# Altium integrated library Cypress PLD Ultra37000.IntLib: 166 symbols (part 5 of 12)
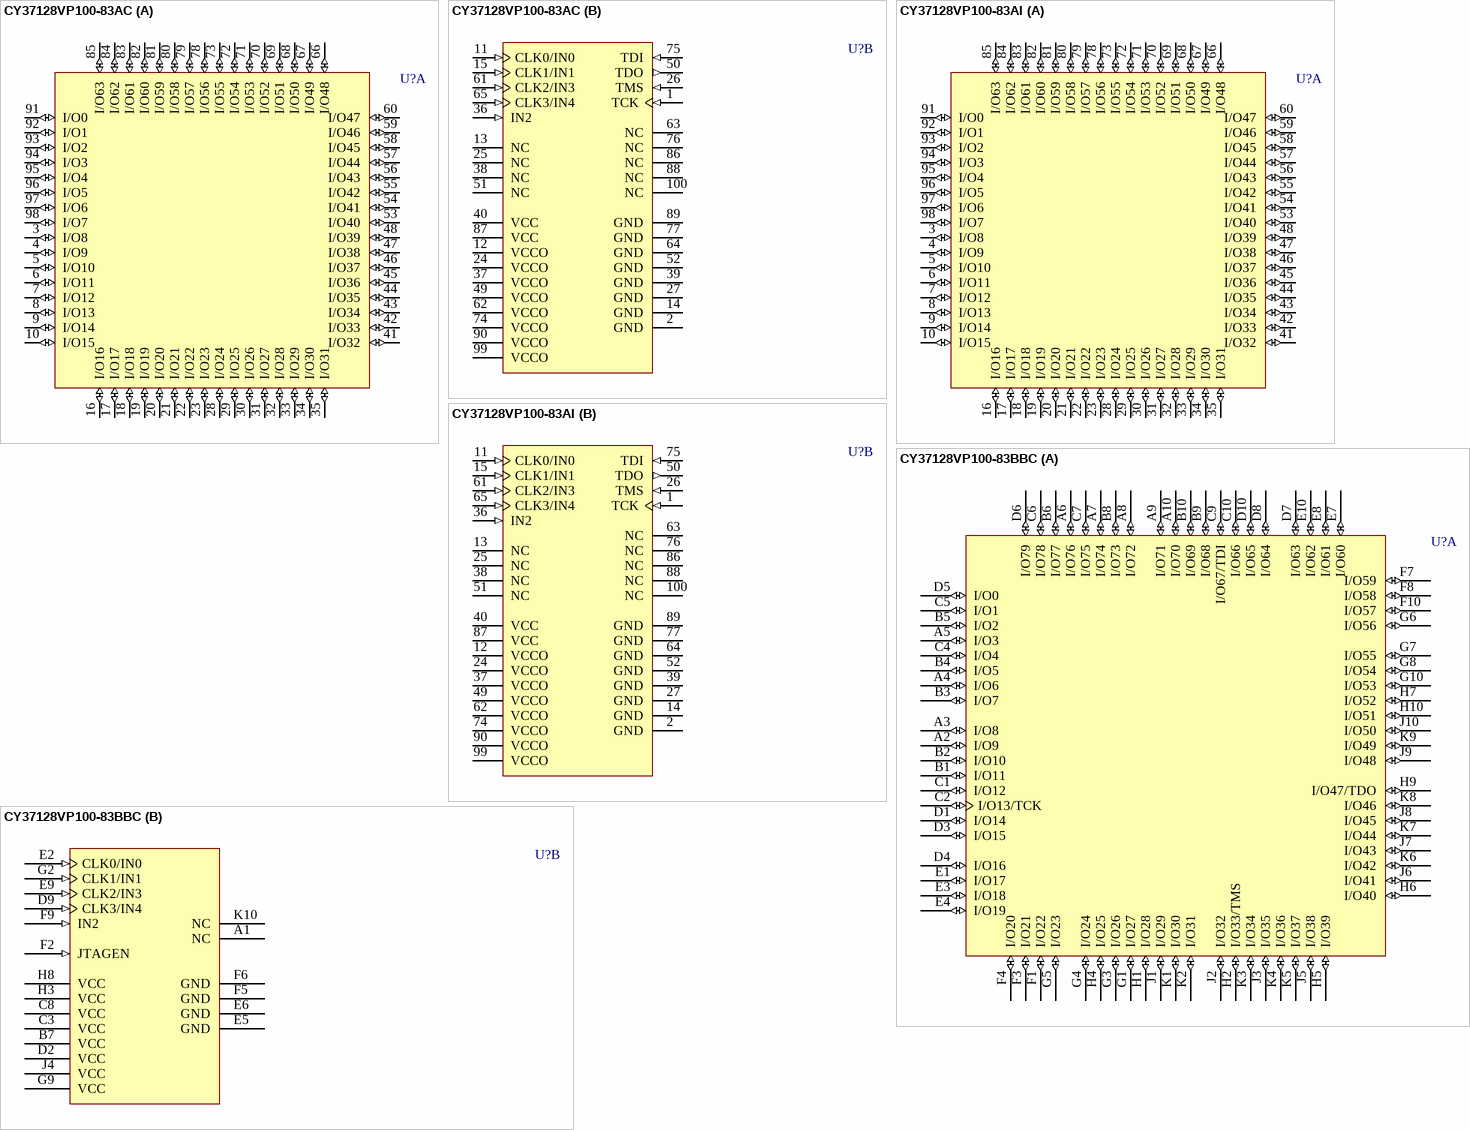
[diagram p94: symbols CY37128VP100-83AC to CY37128VP100-83BBC]

## CY37128VP100-83BBC
designator U?
Ultra37000 3.3V, ISR High-Performance CPLD; Published: 11-Dec-2002; LatestRevisionDate: 13-Apr-2006; LatestRevisionNote: IPC-7351 Footprint Added.; DatasheetVersion: 18-Apr-2001; PackageVersion: Mar-2001; PackageReference: BB100; Publisher: Altium Limited; PackageDescription: 100-Ball Thin Ball Grid Array 1 mm Pitch; ComponentLink1Description: Manufacturer Link; ComponentLink1URL: http://www.cypress.com/; ComponentLink2Description: Datasheet; ComponentLink2URL: http://www.cypress.com/portal/server.pt/gateway/PTARGS_0_2_1524_209_259_43/http%3B/sjapp20.mis.cypress.com%3B7001/publishedcontent/publish/design_resources/datasheets/contents/cy37032p_5.pdf
footprint BB100 (BGA, 100-Leads, Body 11x11mm, Pitch 1mm)
3D model CY37128VP100-BB100 (100-Ball Thin Ball Grid Array 1 mm Pitch)
part A pins: A2 I/O9 (io), A3 I/O8 (io), A4 I/O6 (io), A5 I/O3 (io), A6 I/O76 (io), A7 I/O74 (io), A8 I/O72 (io), A9 I/O71 (io), A10 I/O70 (io), B1 I/O11 (io), B2 I/O10 (io), B3 I/O7 (io), B4 I/O5 (io), B5 I/O2 (io), B6 I/O77 (io), B8 I/O73 (io), B9 I/O68 (io), B10 I/O69 (io), C1 I/O12 (io), C2 I/O13/TCK (io), C4 I/O4 (io), C5 I/O1 (io), C6 I/O78 (io), C7 I/O75 (io), C9 I/O67/TDI (io), C10 I/O66 (io), D1 I/O14 (io), D3 I/O15 (io), D4 I/O16 (io), D5 I/O0 (io), D6 I/O79 (io), D7 I/O63 (io), D8 I/O64 (io), D10 I/O65 (io), E1 I/O17 (io), E3 I/O18 (io), E4 I/O19 (io), E7 I/O60 (io), E8 I/O61 (io), E10 I/O62 (io), F1 I/O22 (io), F3 I/O21 (io), F4 I/O20 (io), F7 I/O59 (io), F8 I/O58 (io), F10 I/O57 (io), G1 I/O27 (io), G3 I/O26 (io), G4 I/O24 (io), G5 I/O23 (io), G6 I/O56 (io), G7 I/O55 (io), G8 I/O54 (io), G10 I/O53 (io), H1 I/O28 (io), H2 I/O33/TMS (io), H4 I/O25 (io), H5 I/O39 (io), H6 I/O40 (io), H7 I/O52 (io), H9 I/O47/TDO (io), H10 I/O51 (io), J1 I/O29 (io), J2 I/O32 (io), J3 I/O35 (io), J5 I/O38 (io), J6 I/O41 (io), J7 I/O43 (io), J8 I/O45 (io), J9 I/O48 (io), J10 I/O50 (io), K1 I/O30 (io), K2 I/O31 (io), K3 I/O34 (io), K4 I/O36 (io), K5 I/O37 (io), K6 I/O42 (io), K7 I/O44 (io), K8 I/O46 (io), K9 I/O49 (io)
part B pins: A1 NC, B7 VCC (power), C3 VCC (power), C8 VCC (power), D2 VCC (power), D9 CLK3/IN4 (in), E2 CLK0/IN0 (in), E5 GND (power), E6 GND (power), E9 CLK2/IN3 (in), F2 JTAGEN (in), F5 GND (power), F6 GND (power), F9 IN2 (in), G2 CLK1/IN1 (in), G9 VCC (power), H3 VCC (power), H8 VCC (power), J4 VCC (power), K10 NC

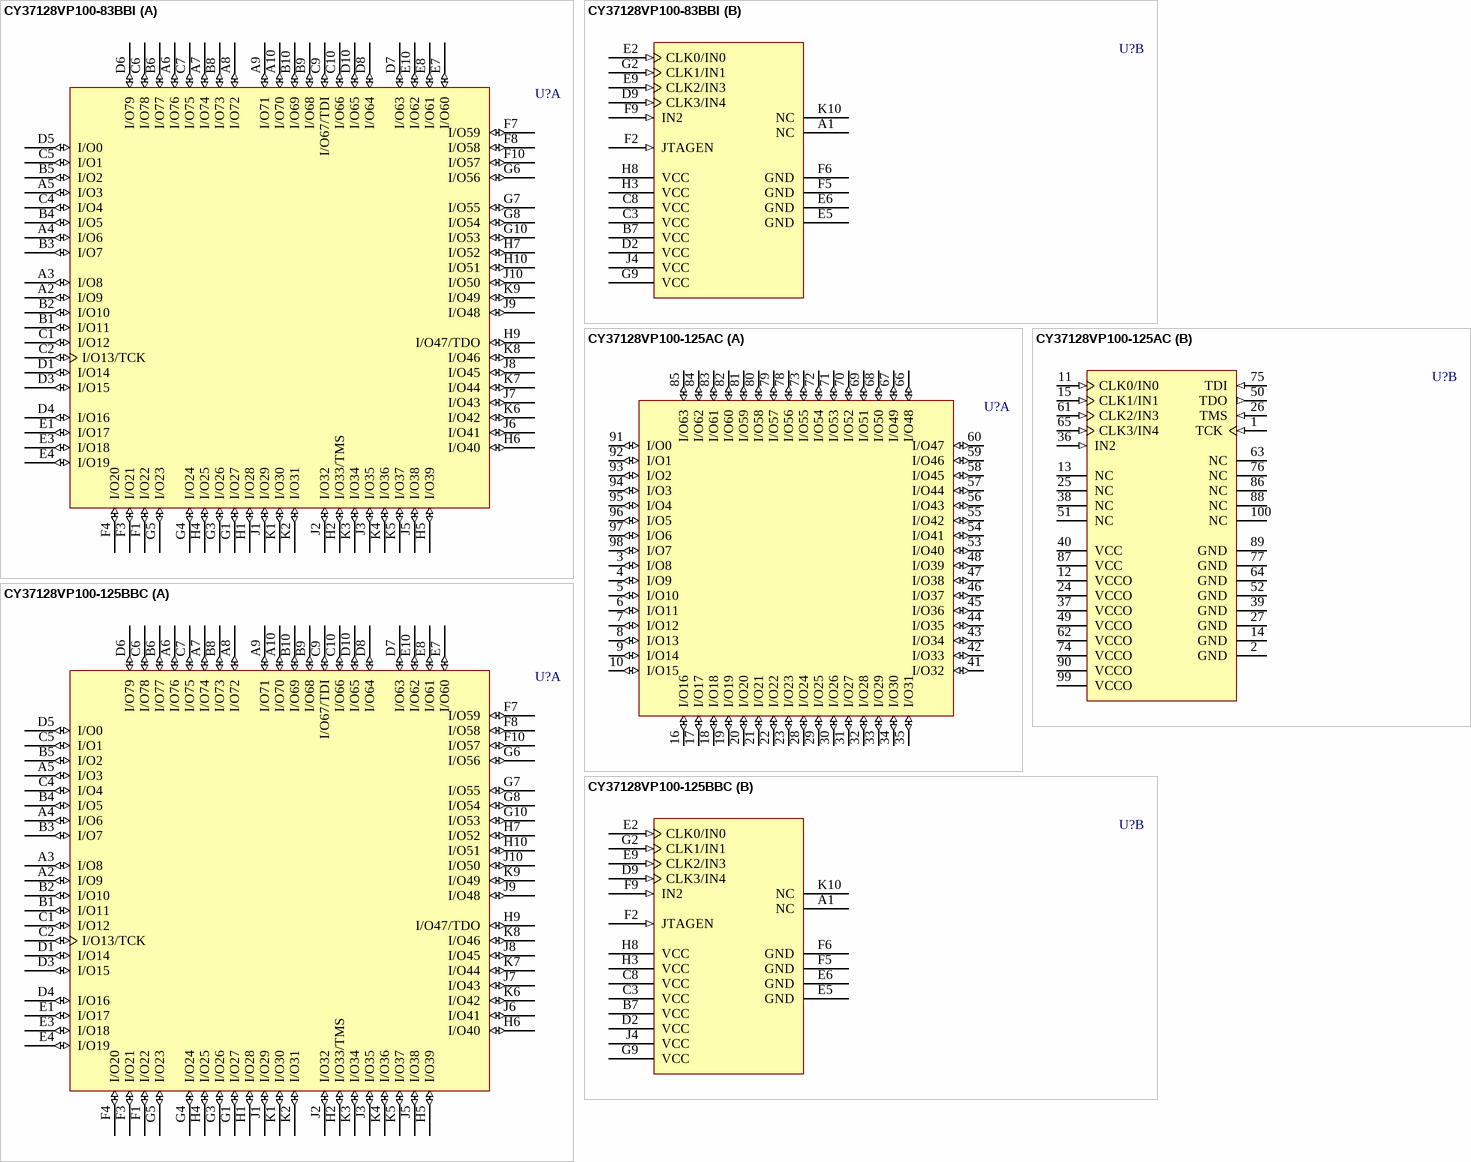
[diagram p20: symbols CY37128VP100-83BBI to CY37128VP100-125BBC]

## CY37128VP100-83BBI
designator U?
Ultra37000 3.3V, ISR High-Performance CPLD; Published: 11-Dec-2002; LatestRevisionDate: 13-Apr-2006; LatestRevisionNote: IPC-7351 Footprint Added.; DatasheetVersion: 18-Apr-2001; PackageVersion: Mar-2001; PackageReference: BB100; Publisher: Altium Limited; PackageDescription: 100-Ball Thin Ball Grid Array 1 mm Pitch; ComponentLink1Description: Manufacturer Link; ComponentLink1URL: http://www.cypress.com/; ComponentLink2Description: Datasheet; ComponentLink2URL: http://www.cypress.com/portal/server.pt/gateway/PTARGS_0_2_1524_209_259_43/http%3B/sjapp20.mis.cypress.com%3B7001/publishedcontent/publish/design_resources/datasheets/contents/cy37032p_5.pdf
footprint BB100 (BGA, 100-Leads, Body 11x11mm, Pitch 1mm)
3D model CY37128VP100-BB100 (100-Ball Thin Ball Grid Array 1 mm Pitch)
part A pins: A2 I/O9 (io), A3 I/O8 (io), A4 I/O6 (io), A5 I/O3 (io), A6 I/O76 (io), A7 I/O74 (io), A8 I/O72 (io), A9 I/O71 (io), A10 I/O70 (io), B1 I/O11 (io), B2 I/O10 (io), B3 I/O7 (io), B4 I/O5 (io), B5 I/O2 (io), B6 I/O77 (io), B8 I/O73 (io), B9 I/O68 (io), B10 I/O69 (io), C1 I/O12 (io), C2 I/O13/TCK (io), C4 I/O4 (io), C5 I/O1 (io), C6 I/O78 (io), C7 I/O75 (io), C9 I/O67/TDI (io), C10 I/O66 (io), D1 I/O14 (io), D3 I/O15 (io), D4 I/O16 (io), D5 I/O0 (io), D6 I/O79 (io), D7 I/O63 (io), D8 I/O64 (io), D10 I/O65 (io), E1 I/O17 (io), E3 I/O18 (io), E4 I/O19 (io), E7 I/O60 (io), E8 I/O61 (io), E10 I/O62 (io), F1 I/O22 (io), F3 I/O21 (io), F4 I/O20 (io), F7 I/O59 (io), F8 I/O58 (io), F10 I/O57 (io), G1 I/O27 (io), G3 I/O26 (io), G4 I/O24 (io), G5 I/O23 (io), G6 I/O56 (io), G7 I/O55 (io), G8 I/O54 (io), G10 I/O53 (io), H1 I/O28 (io), H2 I/O33/TMS (io), H4 I/O25 (io), H5 I/O39 (io), H6 I/O40 (io), H7 I/O52 (io), H9 I/O47/TDO (io), H10 I/O51 (io), J1 I/O29 (io), J2 I/O32 (io), J3 I/O35 (io), J5 I/O38 (io), J6 I/O41 (io), J7 I/O43 (io), J8 I/O45 (io), J9 I/O48 (io), J10 I/O50 (io), K1 I/O30 (io), K2 I/O31 (io), K3 I/O34 (io), K4 I/O36 (io), K5 I/O37 (io), K6 I/O42 (io), K7 I/O44 (io), K8 I/O46 (io), K9 I/O49 (io)
part B pins: A1 NC, B7 VCC (power), C3 VCC (power), C8 VCC (power), D2 VCC (power), D9 CLK3/IN4 (in), E2 CLK0/IN0 (in), E5 GND (power), E6 GND (power), E9 CLK2/IN3 (in), F2 JTAGEN (in), F5 GND (power), F6 GND (power), F9 IN2 (in), G2 CLK1/IN1 (in), G9 VCC (power), H3 VCC (power), H8 VCC (power), J4 VCC (power), K10 NC

## CY37128VP100-125AC
designator U?
Ultra37000 3.3V, ISR High-Performance CPLD; Published: 11-Dec-2002; LatestRevisionDate: 13-Apr-2006; LatestRevisionNote: IPC-7351 Footprint Added.; DatasheetVersion: 18-Apr-2001; PackageVersion: Mar-2001; PackageReference: A100; Publisher: Altium Limited; PackageDescription: 100-Pin Thin Quad Flat Pack 0.5 mm Pitch; ComponentLink1Description: Manufacturer Link; ComponentLink1URL: http://www.cypress.com/; ComponentLink2Description: Datasheet; ComponentLink2URL: http://www.cypress.com/portal/server.pt/gateway/PTARGS_0_2_1524_209_259_43/http%3B/sjapp20.mis.cypress.com%3B7001/publishedcontent/publish/design_resources/datasheets/contents/cy37032p_5.pdf
footprint A100_N (Thin QFP, 100-Leads, Body 14x14mm, Pitch 0.5mm, IPC Medium Density)
footprint A100_L (Thin QFP, 100-Leads, Body 14x14mm, Pitch 0.5mm, IPC High Density)
footprint A100_M (Thin QFP, 100-Leads, Body 14x14mm, Pitch 0.5mm, IPC Low Density)
3D model CY37128VP100-A100 (100-Pin Thin Quad Flat Pack 0.5 mm Pitch)
part A pins: 3 I/O8 (io), 4 I/O9 (io), 5 I/O10 (io), 6 I/O11 (io), 7 I/O12 (io), 8 I/O13 (io), 9 I/O14 (io), 10 I/O15 (io), 16 I/O16 (io), 17 I/O17 (io), 18 I/O18 (io), 19 I/O19 (io), 20 I/O20 (io), 21 I/O21 (io), 22 I/O22 (io), 23 I/O23 (io), 28 I/O24 (io), 29 I/O25 (io), 30 I/O26 (io), 31 I/O27 (io), 32 I/O28 (io), 33 I/O29 (io), 34 I/O30 (io), 35 I/O31 (io), 41 I/O32 (io), 42 I/O33 (io), 43 I/O34 (io), 44 I/O35 (io), 45 I/O36 (io), 46 I/O37 (io), 47 I/O38 (io), 48 I/O39 (io), 53 I/O40 (io), 54 I/O41 (io), 55 I/O42 (io), 56 I/O43 (io), 57 I/O44 (io), 58 I/O45 (io), 59 I/O46 (io), 60 I/O47 (io), 66 I/O48 (io), 67 I/O49 (io), 68 I/O50 (io), 69 I/O51 (io), 70 I/O52 (io), 71 I/O53 (io), 72 I/O54 (io), 73 I/O55 (io), 78 I/O56 (io), 79 I/O57 (io), 80 I/O58 (io), 81 I/O59 (io), 82 I/O60 (io), 83 I/O61 (io), 84 I/O62 (io), 85 I/O63 (io), 91 I/O0 (io), 92 I/O1 (io), 93 I/O2 (io), 94 I/O3 (io), 95 I/O4 (io), 96 I/O5 (io), 97 I/O6 (io), 98 I/O7 (io)
part B pins: 1 TCK (in), 2 GND (power), 11 CLK0/IN0 (in), 12 VCCO (power), 13 NC, 14 GND (power), 15 CLK1/IN1 (in), 24 VCCO (power), 25 NC, 26 TMS (in), 27 GND (power), 36 IN2 (in), 37 VCCO (power), 38 NC, 39 GND (power), 40 VCC (power), 49 VCCO (power), 50 TDO (out), 51 NC, 52 GND (power), 61 CLK2/IN3 (in), 62 VCCO (power), 63 NC, 64 GND (power), 65 CLK3/IN4 (in), 74 VCCO (power), 75 TDI (in), 76 NC, 77 GND (power), 86 NC, 87 VCC (power), 88 NC, 89 GND (power), 90 VCCO (power), 99 VCCO (power), 100 NC

## CY37128VP100-125BBC
designator U?
Ultra37000 3.3V, ISR High-Performance CPLD; Published: 11-Dec-2002; LatestRevisionDate: 13-Apr-2006; LatestRevisionNote: IPC-7351 Footprint Added.; DatasheetVersion: 18-Apr-2001; PackageVersion: Mar-2001; PackageReference: BB100; Publisher: Altium Limited; PackageDescription: 100-Ball Thin Ball Grid Array 1 mm Pitch; ComponentLink1Description: Manufacturer Link; ComponentLink1URL: http://www.cypress.com/; ComponentLink2Description: Datasheet; ComponentLink2URL: http://www.cypress.com/portal/server.pt/gateway/PTARGS_0_2_1524_209_259_43/http%3B/sjapp20.mis.cypress.com%3B7001/publishedcontent/publish/design_resources/datasheets/contents/cy37032p_5.pdf
footprint BB100 (BGA, 100-Leads, Body 11x11mm, Pitch 1mm)
3D model CY37128VP100-BB100 (100-Ball Thin Ball Grid Array 1 mm Pitch)
part A pins: A2 I/O9 (io), A3 I/O8 (io), A4 I/O6 (io), A5 I/O3 (io), A6 I/O76 (io), A7 I/O74 (io), A8 I/O72 (io), A9 I/O71 (io), A10 I/O70 (io), B1 I/O11 (io), B2 I/O10 (io), B3 I/O7 (io), B4 I/O5 (io), B5 I/O2 (io), B6 I/O77 (io), B8 I/O73 (io), B9 I/O68 (io), B10 I/O69 (io), C1 I/O12 (io), C2 I/O13/TCK (io), C4 I/O4 (io), C5 I/O1 (io), C6 I/O78 (io), C7 I/O75 (io), C9 I/O67/TDI (io), C10 I/O66 (io), D1 I/O14 (io), D3 I/O15 (io), D4 I/O16 (io), D5 I/O0 (io), D6 I/O79 (io), D7 I/O63 (io), D8 I/O64 (io), D10 I/O65 (io), E1 I/O17 (io), E3 I/O18 (io), E4 I/O19 (io), E7 I/O60 (io), E8 I/O61 (io), E10 I/O62 (io), F1 I/O22 (io), F3 I/O21 (io), F4 I/O20 (io), F7 I/O59 (io), F8 I/O58 (io), F10 I/O57 (io), G1 I/O27 (io), G3 I/O26 (io), G4 I/O24 (io), G5 I/O23 (io), G6 I/O56 (io), G7 I/O55 (io), G8 I/O54 (io), G10 I/O53 (io), H1 I/O28 (io), H2 I/O33/TMS (io), H4 I/O25 (io), H5 I/O39 (io), H6 I/O40 (io), H7 I/O52 (io), H9 I/O47/TDO (io), H10 I/O51 (io), J1 I/O29 (io), J2 I/O32 (io), J3 I/O35 (io), J5 I/O38 (io), J6 I/O41 (io), J7 I/O43 (io), J8 I/O45 (io), J9 I/O48 (io), J10 I/O50 (io), K1 I/O30 (io), K2 I/O31 (io), K3 I/O34 (io), K4 I/O36 (io), K5 I/O37 (io), K6 I/O42 (io), K7 I/O44 (io), K8 I/O46 (io), K9 I/O49 (io)
part B pins: A1 NC, B7 VCC (power), C3 VCC (power), C8 VCC (power), D2 VCC (power), D9 CLK3/IN4 (in), E2 CLK0/IN0 (in), E5 GND (power), E6 GND (power), E9 CLK2/IN3 (in), F2 JTAGEN (in), F5 GND (power), F6 GND (power), F9 IN2 (in), G2 CLK1/IN1 (in), G9 VCC (power), H3 VCC (power), H8 VCC (power), J4 VCC (power), K10 NC

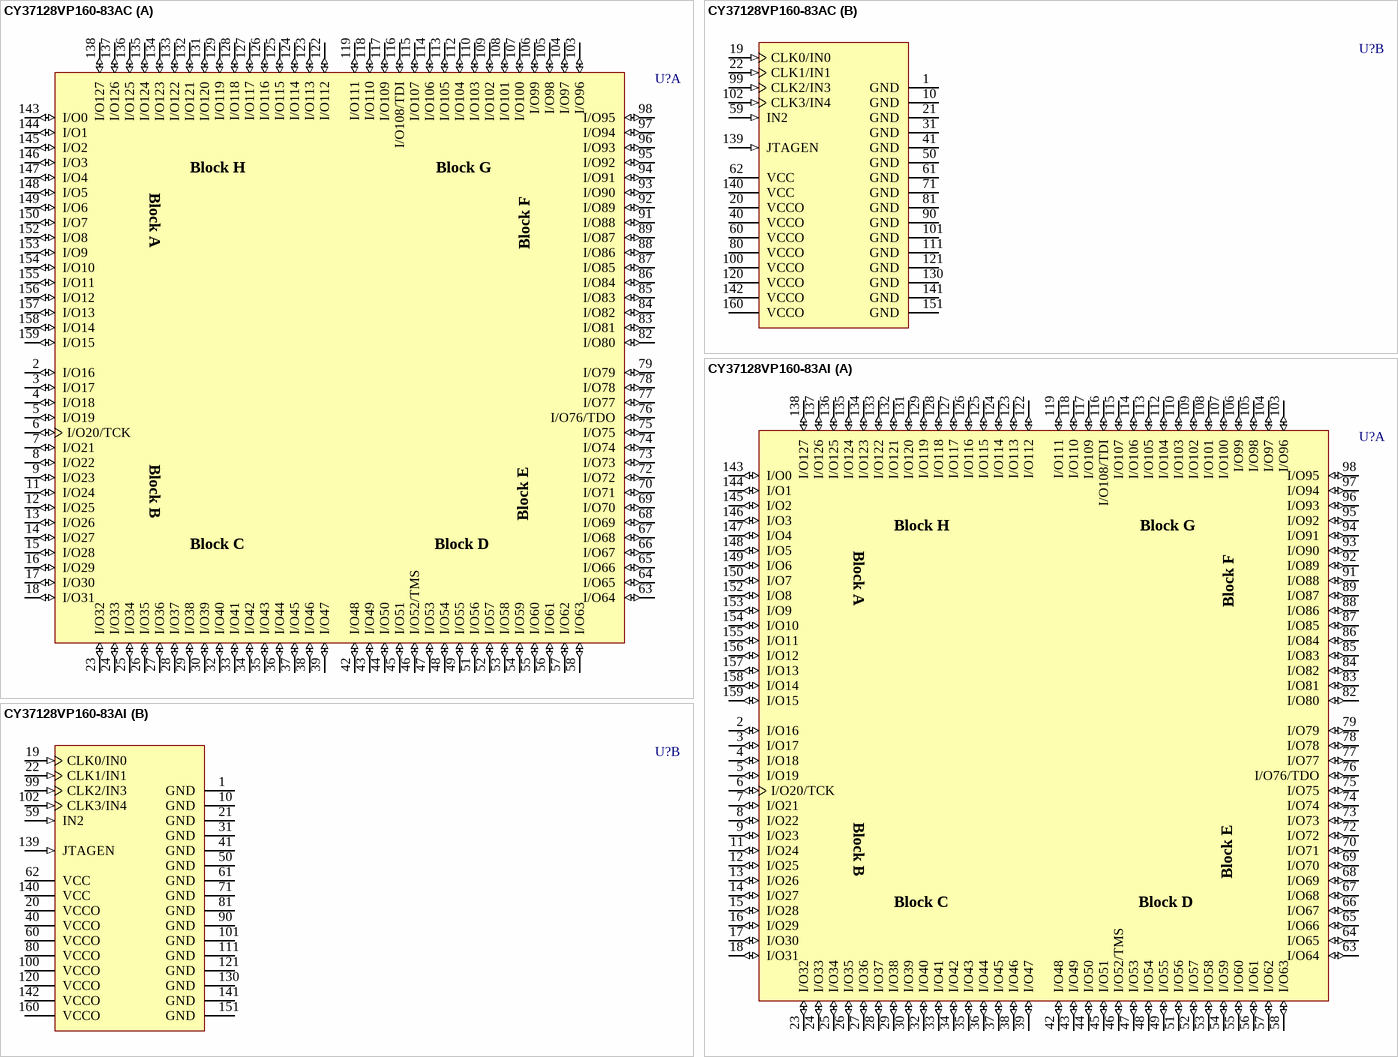
[diagram p21: symbols CY37128VP160-83AC to CY37128VP160-83AI]

## CY37128VP160-83AC
designator U?
Ultra37000 3.3V, ISR High-Performance CPLD; Published: 11-Dec-2002; LatestRevisionDate: 13-Apr-2006; LatestRevisionNote: IPC-7351 Footprint Added.; DatasheetVersion: 18-Apr-2001; PackageVersion: Mar-2001; PackageReference: A160; Publisher: Altium Limited; PackageDescription: 160-Pin Thin Quad Flat Pack 0.5 mm Pitch; ComponentLink1Description: Manufacturer Link; ComponentLink1URL: http://www.cypress.com/; ComponentLink2Description: Datasheet; ComponentLink2URL: http://www.cypress.com/portal/server.pt/gateway/PTARGS_0_2_1524_209_259_43/http%3B/sjapp20.mis.cypress.com%3B7001/publishedcontent/publish/design_resources/datasheets/contents/cy37032p_5.pdf
footprint A160_N (Thin QFP, 160-Leads, Body 24x24mm, Pitch 0.5mm, IPC Medium Density)
footprint A160_L (Thin QFP, 160-Leads, Body 24x24mm, Pitch 0.5mm, IPC High Density)
footprint A160_M (Thin QFP, 160-Leads, Body 24x24mm, Pitch 0.5mm, IPC Low Density)
3D model CY37128VP160-A160 (160-Pin Thin Quad Flat Pack 0.5 mm Pitch)
part A pins: 2 I/O16 (io), 3 I/O17 (io), 4 I/O18 (io), 5 I/O19 (io), 6 I/O20/TCK (io), 7 I/O21 (io), 8 I/O22 (io), 9 I/O23 (io), 11 I/O24 (io), 12 I/O25 (io), 13 I/O26 (io), 14 I/O27 (io), 15 I/O28 (io), 16 I/O29 (io), 17 I/O30 (io), 18 I/O31 (io), 23 I/O32 (io), 24 I/O33 (io), 25 I/O34 (io), 26 I/O35 (io), 27 I/O36 (io), 28 I/O37 (io), 29 I/O38 (io), 30 I/O39 (io), 32 I/O40 (io), 33 I/O41 (io), 34 I/O42 (io), 35 I/O43 (io), 36 I/O44 (io), 37 I/O45 (io), 38 I/O46 (io), 39 I/O47 (io), 42 I/O48 (io), 43 I/O49 (io), 44 I/O50 (io), 45 I/O51 (io), 46 I/O52/TMS (io), 47 I/O53 (io), 48 I/O54 (io), 49 I/O55 (io), 51 I/O56 (io), 52 I/O57 (io), 53 I/O58 (io), 54 I/O59 (io), 55 I/O60 (io), 56 I/O61 (io), 57 I/O62 (io), 58 I/O63 (io), 63 I/O64 (io), 64 I/O65 (io), 65 I/O66 (io), 66 I/O67 (io), 67 I/O68 (io), 68 I/O69 (io), 69 I/O70 (io), 70 I/O71 (io), 72 I/O72 (io), 73 I/O73 (io), 74 I/O74 (io), 75 I/O75 (io), 76 I/O76/TDO (io), 77 I/O77 (io), 78 I/O78 (io), 79 I/O79 (io), 82 I/O80 (io), 83 I/O81 (io), 84 I/O82 (io), 85 I/O83 (io), 86 I/O84 (io), 87 I/O85 (io), 88 I/O86 (io), 89 I/O87 (io), 91 I/O88 (io), 92 I/O89 (io), 93 I/O90 (io), 94 I/O91 (io), 95 I/O92 (io), 96 I/O93 (io), 97 I/O94 (io), 98 I/O95 (io), 103 I/O96 (io), 104 I/O97 (io), 105 I/O98 (io), 106 I/O99 (io), 107 I/O100 (io), 108 I/O101 (io), 109 I/O102 (io), 110 I/O103 (io), 112 I/O104 (io), 113 I/O105 (io), 114 I/O106 (io), 115 I/O107 (io), 116 I/O108/TDI (io), 117 I/O109 (io), 118 I/O110 (io), 119 I/O111 (io), 122 I/O112 (io), 123 I/O113 (io), 124 I/O114 (io), 125 I/O115 (io), 126 I/O116 (io), 127 I/O117 (io), 128 I/O118 (io), 129 I/O119 (io), 131 I/O120 (io), 132 I/O121 (io), 133 I/O122 (io), 134 I/O123 (io), 135 I/O124 (io), 136 I/O125 (io), 137 I/O126 (io), 138 I/O127 (io), 143 I/O0 (io), 144 I/O1 (io), 145 I/O2 (io), 146 I/O3 (io), 147 I/O4 (io), 148 I/O5 (io), 149 I/O6 (io), 150 I/O7 (io), 152 I/O8 (io), 153 I/O9 (io), 154 I/O10 (io), 155 I/O11 (io), 156 I/O12 (io), 157 I/O13 (io), 158 I/O14 (io), 159 I/O15 (io)
part B pins: 1 GND (power), 10 GND (power), 19 CLK0/IN0 (in), 20 VCCO (power), 21 GND (power), 22 CLK1/IN1 (in), 31 GND (power), 40 VCCO (power), 41 GND (power), 50 GND (power), 59 IN2 (in), 60 VCCO (power), 61 GND (power), 62 VCC (power), 71 GND (power), 80 VCCO (power), 81 GND (power), 90 GND (power), 99 CLK2/IN3 (in), 100 VCCO (power), 101 GND (power), 102 CLK3/IN4 (in), 111 GND (power), 120 VCCO (power), 121 GND (power), 130 GND (power), 139 JTAGEN (in), 140 VCC (power), 141 GND (power), 142 VCCO (power), 151 GND (power), 160 VCCO (power)
part A text: Block H; Block G; Block A; Block F; Block B; Block E; Block C; Block D

## CY37128VP160-83AI
designator U?
Ultra37000 3.3V, ISR High-Performance CPLD; Published: 11-Dec-2002; LatestRevisionDate: 13-Apr-2006; LatestRevisionNote: IPC-7351 Footprint Added.; DatasheetVersion: 18-Apr-2001; PackageVersion: Mar-2001; PackageReference: A160; Publisher: Altium Limited; PackageDescription: 160-Pin Thin Quad Flat Pack 0.5 mm Pitch; ComponentLink1Description: Manufacturer Link; ComponentLink1URL: http://www.cypress.com/; ComponentLink2Description: Datasheet; ComponentLink2URL: http://www.cypress.com/portal/server.pt/gateway/PTARGS_0_2_1524_209_259_43/http%3B/sjapp20.mis.cypress.com%3B7001/publishedcontent/publish/design_resources/datasheets/contents/cy37032p_5.pdf
footprint A160_N (Thin QFP, 160-Leads, Body 24x24mm, Pitch 0.5mm, IPC Medium Density)
footprint A160_L (Thin QFP, 160-Leads, Body 24x24mm, Pitch 0.5mm, IPC High Density)
footprint A160_M (Thin QFP, 160-Leads, Body 24x24mm, Pitch 0.5mm, IPC Low Density)
3D model CY37128VP160-A160 (160-Pin Thin Quad Flat Pack 0.5 mm Pitch)
part A pins: 2 I/O16 (io), 3 I/O17 (io), 4 I/O18 (io), 5 I/O19 (io), 6 I/O20/TCK (io), 7 I/O21 (io), 8 I/O22 (io), 9 I/O23 (io), 11 I/O24 (io), 12 I/O25 (io), 13 I/O26 (io), 14 I/O27 (io), 15 I/O28 (io), 16 I/O29 (io), 17 I/O30 (io), 18 I/O31 (io), 23 I/O32 (io), 24 I/O33 (io), 25 I/O34 (io), 26 I/O35 (io), 27 I/O36 (io), 28 I/O37 (io), 29 I/O38 (io), 30 I/O39 (io), 32 I/O40 (io), 33 I/O41 (io), 34 I/O42 (io), 35 I/O43 (io), 36 I/O44 (io), 37 I/O45 (io), 38 I/O46 (io), 39 I/O47 (io), 42 I/O48 (io), 43 I/O49 (io), 44 I/O50 (io), 45 I/O51 (io), 46 I/O52/TMS (io), 47 I/O53 (io), 48 I/O54 (io), 49 I/O55 (io), 51 I/O56 (io), 52 I/O57 (io), 53 I/O58 (io), 54 I/O59 (io), 55 I/O60 (io), 56 I/O61 (io), 57 I/O62 (io), 58 I/O63 (io), 63 I/O64 (io), 64 I/O65 (io), 65 I/O66 (io), 66 I/O67 (io), 67 I/O68 (io), 68 I/O69 (io), 69 I/O70 (io), 70 I/O71 (io), 72 I/O72 (io), 73 I/O73 (io), 74 I/O74 (io), 75 I/O75 (io), 76 I/O76/TDO (io), 77 I/O77 (io), 78 I/O78 (io), 79 I/O79 (io), 82 I/O80 (io), 83 I/O81 (io), 84 I/O82 (io), 85 I/O83 (io), 86 I/O84 (io), 87 I/O85 (io), 88 I/O86 (io), 89 I/O87 (io), 91 I/O88 (io), 92 I/O89 (io), 93 I/O90 (io), 94 I/O91 (io), 95 I/O92 (io), 96 I/O93 (io), 97 I/O94 (io), 98 I/O95 (io), 103 I/O96 (io), 104 I/O97 (io), 105 I/O98 (io), 106 I/O99 (io), 107 I/O100 (io), 108 I/O101 (io), 109 I/O102 (io), 110 I/O103 (io), 112 I/O104 (io), 113 I/O105 (io), 114 I/O106 (io), 115 I/O107 (io), 116 I/O108/TDI (io), 117 I/O109 (io), 118 I/O110 (io), 119 I/O111 (io), 122 I/O112 (io), 123 I/O113 (io), 124 I/O114 (io), 125 I/O115 (io), 126 I/O116 (io), 127 I/O117 (io), 128 I/O118 (io), 129 I/O119 (io), 131 I/O120 (io), 132 I/O121 (io), 133 I/O122 (io), 134 I/O123 (io), 135 I/O124 (io), 136 I/O125 (io), 137 I/O126 (io), 138 I/O127 (io), 143 I/O0 (io), 144 I/O1 (io), 145 I/O2 (io), 146 I/O3 (io), 147 I/O4 (io), 148 I/O5 (io), 149 I/O6 (io), 150 I/O7 (io), 152 I/O8 (io), 153 I/O9 (io), 154 I/O10 (io), 155 I/O11 (io), 156 I/O12 (io), 157 I/O13 (io), 158 I/O14 (io), 159 I/O15 (io)
part B pins: 1 GND (power), 10 GND (power), 19 CLK0/IN0 (in), 20 VCCO (power), 21 GND (power), 22 CLK1/IN1 (in), 31 GND (power), 40 VCCO (power), 41 GND (power), 50 GND (power), 59 IN2 (in), 60 VCCO (power), 61 GND (power), 62 VCC (power), 71 GND (power), 80 VCCO (power), 81 GND (power), 90 GND (power), 99 CLK2/IN3 (in), 100 VCCO (power), 101 GND (power), 102 CLK3/IN4 (in), 111 GND (power), 120 VCCO (power), 121 GND (power), 130 GND (power), 139 JTAGEN (in), 140 VCC (power), 141 GND (power), 142 VCCO (power), 151 GND (power), 160 VCCO (power)
part A text: Block H; Block G; Block A; Block F; Block B; Block E; Block C; Block D

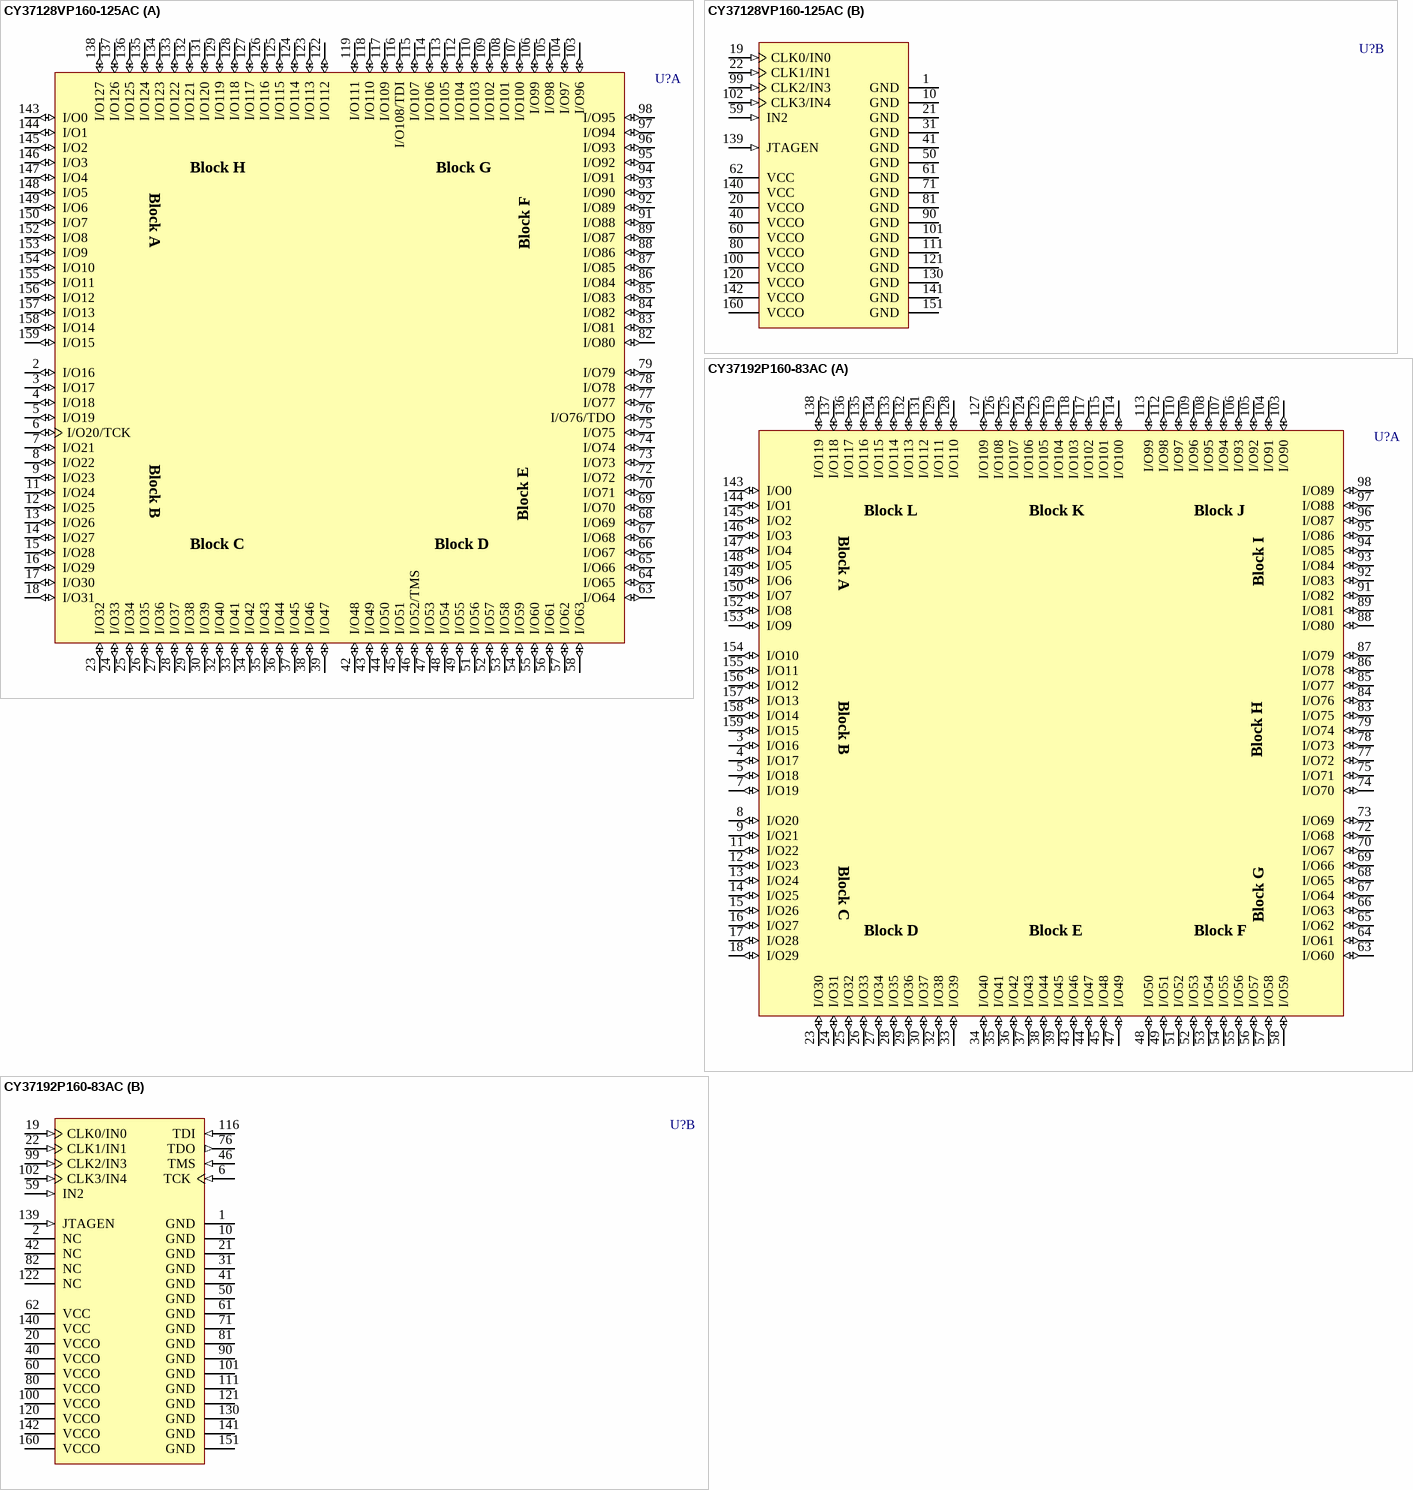
[diagram p22: symbols CY37128VP160-125AC to CY37192P160-83AC]

## CY37128VP160-125AC
designator U?
Ultra37000 3.3V, ISR High-Performance CPLD; Published: 11-Dec-2002; LatestRevisionDate: 13-Apr-2006; LatestRevisionNote: IPC-7351 Footprint Added.; DatasheetVersion: 18-Apr-2001; PackageVersion: Mar-2001; PackageReference: A160; Publisher: Altium Limited; PackageDescription: 160-Pin Thin Quad Flat Pack 0.5 mm Pitch; ComponentLink1Description: Manufacturer Link; ComponentLink1URL: http://www.cypress.com/; ComponentLink2Description: Datasheet; ComponentLink2URL: http://www.cypress.com/portal/server.pt/gateway/PTARGS_0_2_1524_209_259_43/http%3B/sjapp20.mis.cypress.com%3B7001/publishedcontent/publish/design_resources/datasheets/contents/cy37032p_5.pdf
footprint A160_N (Thin QFP, 160-Leads, Body 24x24mm, Pitch 0.5mm, IPC Medium Density)
footprint A160_L (Thin QFP, 160-Leads, Body 24x24mm, Pitch 0.5mm, IPC High Density)
footprint A160_M (Thin QFP, 160-Leads, Body 24x24mm, Pitch 0.5mm, IPC Low Density)
3D model CY37128VP160-A160 (160-Pin Thin Quad Flat Pack 0.5 mm Pitch)
part A pins: 2 I/O16 (io), 3 I/O17 (io), 4 I/O18 (io), 5 I/O19 (io), 6 I/O20/TCK (io), 7 I/O21 (io), 8 I/O22 (io), 9 I/O23 (io), 11 I/O24 (io), 12 I/O25 (io), 13 I/O26 (io), 14 I/O27 (io), 15 I/O28 (io), 16 I/O29 (io), 17 I/O30 (io), 18 I/O31 (io), 23 I/O32 (io), 24 I/O33 (io), 25 I/O34 (io), 26 I/O35 (io), 27 I/O36 (io), 28 I/O37 (io), 29 I/O38 (io), 30 I/O39 (io), 32 I/O40 (io), 33 I/O41 (io), 34 I/O42 (io), 35 I/O43 (io), 36 I/O44 (io), 37 I/O45 (io), 38 I/O46 (io), 39 I/O47 (io), 42 I/O48 (io), 43 I/O49 (io), 44 I/O50 (io), 45 I/O51 (io), 46 I/O52/TMS (io), 47 I/O53 (io), 48 I/O54 (io), 49 I/O55 (io), 51 I/O56 (io), 52 I/O57 (io), 53 I/O58 (io), 54 I/O59 (io), 55 I/O60 (io), 56 I/O61 (io), 57 I/O62 (io), 58 I/O63 (io), 63 I/O64 (io), 64 I/O65 (io), 65 I/O66 (io), 66 I/O67 (io), 67 I/O68 (io), 68 I/O69 (io), 69 I/O70 (io), 70 I/O71 (io), 72 I/O72 (io), 73 I/O73 (io), 74 I/O74 (io), 75 I/O75 (io), 76 I/O76/TDO (io), 77 I/O77 (io), 78 I/O78 (io), 79 I/O79 (io), 82 I/O80 (io), 83 I/O81 (io), 84 I/O82 (io), 85 I/O83 (io), 86 I/O84 (io), 87 I/O85 (io), 88 I/O86 (io), 89 I/O87 (io), 91 I/O88 (io), 92 I/O89 (io), 93 I/O90 (io), 94 I/O91 (io), 95 I/O92 (io), 96 I/O93 (io), 97 I/O94 (io), 98 I/O95 (io), 103 I/O96 (io), 104 I/O97 (io), 105 I/O98 (io), 106 I/O99 (io), 107 I/O100 (io), 108 I/O101 (io), 109 I/O102 (io), 110 I/O103 (io), 112 I/O104 (io), 113 I/O105 (io), 114 I/O106 (io), 115 I/O107 (io), 116 I/O108/TDI (io), 117 I/O109 (io), 118 I/O110 (io), 119 I/O111 (io), 122 I/O112 (io), 123 I/O113 (io), 124 I/O114 (io), 125 I/O115 (io), 126 I/O116 (io), 127 I/O117 (io), 128 I/O118 (io), 129 I/O119 (io), 131 I/O120 (io), 132 I/O121 (io), 133 I/O122 (io), 134 I/O123 (io), 135 I/O124 (io), 136 I/O125 (io), 137 I/O126 (io), 138 I/O127 (io), 143 I/O0 (io), 144 I/O1 (io), 145 I/O2 (io), 146 I/O3 (io), 147 I/O4 (io), 148 I/O5 (io), 149 I/O6 (io), 150 I/O7 (io), 152 I/O8 (io), 153 I/O9 (io), 154 I/O10 (io), 155 I/O11 (io), 156 I/O12 (io), 157 I/O13 (io), 158 I/O14 (io), 159 I/O15 (io)
part B pins: 1 GND (power), 10 GND (power), 19 CLK0/IN0 (in), 20 VCCO (power), 21 GND (power), 22 CLK1/IN1 (in), 31 GND (power), 40 VCCO (power), 41 GND (power), 50 GND (power), 59 IN2 (in), 60 VCCO (power), 61 GND (power), 62 VCC (power), 71 GND (power), 80 VCCO (power), 81 GND (power), 90 GND (power), 99 CLK2/IN3 (in), 100 VCCO (power), 101 GND (power), 102 CLK3/IN4 (in), 111 GND (power), 120 VCCO (power), 121 GND (power), 130 GND (power), 139 JTAGEN (in), 140 VCC (power), 141 GND (power), 142 VCCO (power), 151 GND (power), 160 VCCO (power)
part A text: Block H; Block G; Block A; Block F; Block B; Block E; Block C; Block D

## CY37192P160-83AC
designator U?
Ultra37000 5V, ISR High-Performance CPLD; Published: 11-Dec-2002; LatestRevisionDate: 13-Apr-2006; LatestRevisionNote: IPC-7351 Footprint Added.; DatasheetVersion: 18-Apr-2001; PackageVersion: Mar-2001; PackageReference: A160; Publisher: Altium Limited; PackageDescription: 160-Pin Thin Quad Flat Pack 0.5 mm Pitch; ComponentLink1Description: Manufacturer Link; ComponentLink1URL: http://www.cypress.com/; ComponentLink2Description: Datasheet; ComponentLink2URL: http://www.cypress.com/portal/server.pt/gateway/PTARGS_0_2_1524_209_259_43/http%3B/sjapp20.mis.cypress.com%3B7001/publishedcontent/publish/design_resources/datasheets/contents/cy37032p_5.pdf
footprint A160_N (Thin QFP, 160-Leads, Body 24x24mm, Pitch 0.5mm, IPC Medium Density)
footprint A160_L (Thin QFP, 160-Leads, Body 24x24mm, Pitch 0.5mm, IPC High Density)
footprint A160_M (Thin QFP, 160-Leads, Body 24x24mm, Pitch 0.5mm, IPC Low Density)
3D model CY37192P160-A160 (160-Pin Thin Quad Flat Pack 0.5 mm Pitch)
part A pins: 3 I/O16 (io), 4 I/O17 (io), 5 I/O18 (io), 7 I/O19 (io), 8 I/O20 (io), 9 I/O21 (io), 11 I/O22 (io), 12 I/O23 (io), 13 I/O24 (io), 14 I/O25 (io), 15 I/O26 (io), 16 I/O27 (io), 17 I/O28 (io), 18 I/O29 (io), 23 I/O30 (io), 24 I/O31 (io), 25 I/O32 (io), 26 I/O33 (io), 27 I/O34 (io), 28 I/O35 (io), 29 I/O36 (io), 30 I/O37 (io), 32 I/O38 (io), 33 I/O39 (io), 34 I/O40 (io), 35 I/O41 (io), 36 I/O42 (io), 37 I/O43 (io), 38 I/O44 (io), 39 I/O45 (io), 43 I/O46 (io), 44 I/O47 (io), 45 I/O48 (io), 47 I/O49 (io), 48 I/O50 (io), 49 I/O51 (io), 51 I/O52 (io), 52 I/O53 (io), 53 I/O54 (io), 54 I/O55 (io), 55 I/O56 (io), 56 I/O57 (io), 57 I/O58 (io), 58 I/O59 (io), 63 I/O60 (io), 64 I/O61 (io), 65 I/O62 (io), 66 I/O63 (io), 67 I/O64 (io), 68 I/O65 (io), 69 I/O66 (io), 70 I/O67 (io), 72 I/O68 (io), 73 I/O69 (io), 74 I/O70 (io), 75 I/O71 (io), 77 I/O72 (io), 78 I/O73 (io), 79 I/O74 (io), 83 I/O75 (io), 84 I/O76 (io), 85 I/O77 (io), 86 I/O78 (io), 87 I/O79 (io), 88 I/O80 (io), 89 I/O81 (io), 91 I/O82 (io), 92 I/O83 (io), 93 I/O84 (io), 94 I/O85 (io), 95 I/O86 (io), 96 I/O87 (io), 97 I/O88 (io), 98 I/O89 (io), 103 I/O90 (io), 104 I/O91 (io), 105 I/O92 (io), 106 I/O93 (io), 107 I/O94 (io), 108 I/O95 (io), 109 I/O96 (io), 110 I/O97 (io), 112 I/O98 (io), 113 I/O99 (io), 114 I/O100 (io), 115 I/O101 (io), 117 I/O102 (io), 118 I/O103 (io), 119 I/O104 (io), 123 I/O105 (io), 124 I/O106 (io), 125 I/O107 (io), 126 I/O108 (io), 127 I/O109 (io), 128 I/O110 (io), 129 I/O111 (io), 131 I/O112 (io), 132 I/O113 (io), 133 I/O114 (io), 134 I/O115 (io), 135 I/O116 (io), 136 I/O117 (io), 137 I/O118 (io), 138 I/O119 (io), 143 I/O0 (io), 144 I/O1 (io), 145 I/O2 (io), 146 I/O3 (io), 147 I/O4 (io), 148 I/O5 (io), 149 I/O6 (io), 150 I/O7 (io), 152 I/O8 (io), 153 I/O9 (io), 154 I/O10 (io), 155 I/O11 (io), 156 I/O12 (io), 157 I/O13 (io), 158 I/O14 (io), 159 I/O15 (io)
part B pins: 1 GND (power), 2 NC, 6 TCK (in), 10 GND (power), 19 CLK0/IN0 (in), 20 VCCO (power), 21 GND (power), 22 CLK1/IN1 (in), 31 GND (power), 40 VCCO (power), 41 GND (power), 42 NC, 46 TMS (in), 50 GND (power), 59 IN2 (in), 60 VCCO (power), 61 GND (power), 62 VCC (power), 71 GND (power), 76 TDO (out), 80 VCCO (power), 81 GND (power), 82 NC, 90 GND (power), 99 CLK2/IN3 (in), 100 VCCO (power), 101 GND (power), 102 CLK3/IN4 (in), 111 GND (power), 116 TDI (in), 120 VCCO (power), 121 GND (power), 122 NC, 130 GND (power), 139 JTAGEN (in), 140 VCC (power), 141 GND (power), 142 VCCO (power), 151 GND (power), 160 VCCO (power)
part A text: Block L; Block K; Block J; Block A; Block I; Block B; Block H; Block C; Block G; Block D; Block E; Block F

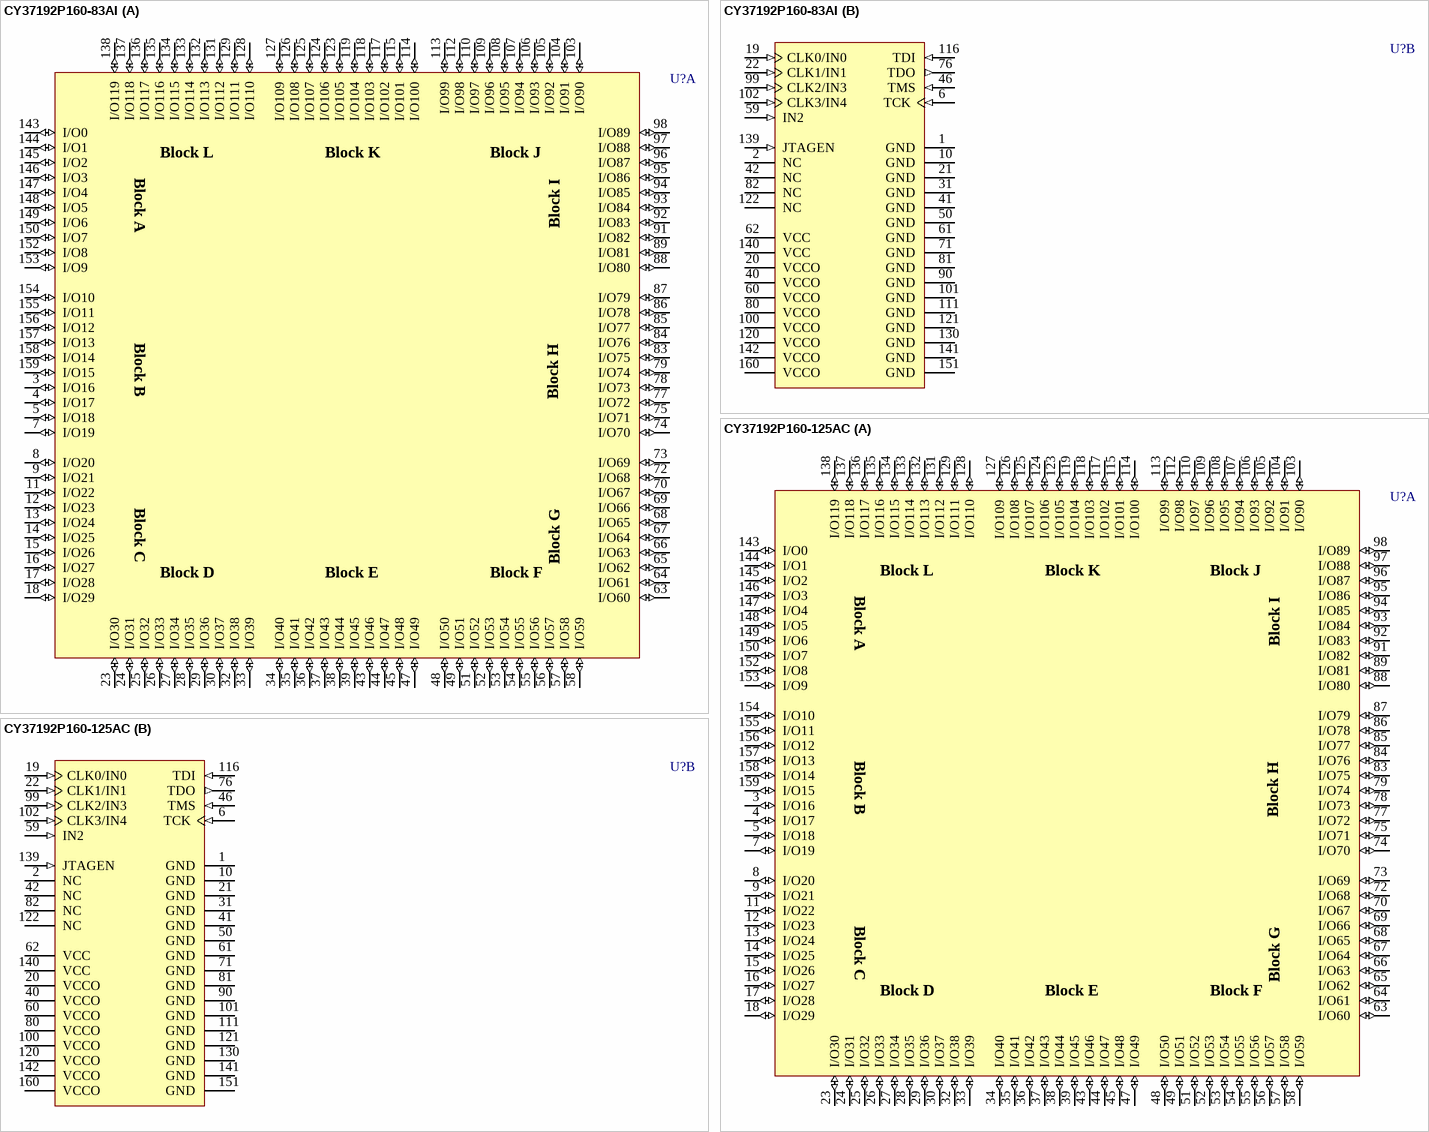
[diagram p23: symbols CY37192P160-83AI to CY37192P160-125AC]

## CY37192P160-83AI
designator U?
Ultra37000 5V, ISR High-Performance CPLD; Published: 11-Dec-2002; LatestRevisionDate: 13-Apr-2006; LatestRevisionNote: IPC-7351 Footprint Added.; DatasheetVersion: 18-Apr-2001; PackageVersion: Mar-2001; PackageReference: A160; Publisher: Altium Limited; PackageDescription: 160-Pin Thin Quad Flat Pack 0.5 mm Pitch; ComponentLink1Description: Manufacturer Link; ComponentLink1URL: http://www.cypress.com/; ComponentLink2Description: Datasheet; ComponentLink2URL: http://www.cypress.com/portal/server.pt/gateway/PTARGS_0_2_1524_209_259_43/http%3B/sjapp20.mis.cypress.com%3B7001/publishedcontent/publish/design_resources/datasheets/contents/cy37032p_5.pdf
footprint A160_N (Thin QFP, 160-Leads, Body 24x24mm, Pitch 0.5mm, IPC Medium Density)
footprint A160_L (Thin QFP, 160-Leads, Body 24x24mm, Pitch 0.5mm, IPC High Density)
footprint A160_M (Thin QFP, 160-Leads, Body 24x24mm, Pitch 0.5mm, IPC Low Density)
3D model CY37192P160-A160 (160-Pin Thin Quad Flat Pack 0.5 mm Pitch)
part A pins: 3 I/O16 (io), 4 I/O17 (io), 5 I/O18 (io), 7 I/O19 (io), 8 I/O20 (io), 9 I/O21 (io), 11 I/O22 (io), 12 I/O23 (io), 13 I/O24 (io), 14 I/O25 (io), 15 I/O26 (io), 16 I/O27 (io), 17 I/O28 (io), 18 I/O29 (io), 23 I/O30 (io), 24 I/O31 (io), 25 I/O32 (io), 26 I/O33 (io), 27 I/O34 (io), 28 I/O35 (io), 29 I/O36 (io), 30 I/O37 (io), 32 I/O38 (io), 33 I/O39 (io), 34 I/O40 (io), 35 I/O41 (io), 36 I/O42 (io), 37 I/O43 (io), 38 I/O44 (io), 39 I/O45 (io), 43 I/O46 (io), 44 I/O47 (io), 45 I/O48 (io), 47 I/O49 (io), 48 I/O50 (io), 49 I/O51 (io), 51 I/O52 (io), 52 I/O53 (io), 53 I/O54 (io), 54 I/O55 (io), 55 I/O56 (io), 56 I/O57 (io), 57 I/O58 (io), 58 I/O59 (io), 63 I/O60 (io), 64 I/O61 (io), 65 I/O62 (io), 66 I/O63 (io), 67 I/O64 (io), 68 I/O65 (io), 69 I/O66 (io), 70 I/O67 (io), 72 I/O68 (io), 73 I/O69 (io), 74 I/O70 (io), 75 I/O71 (io), 77 I/O72 (io), 78 I/O73 (io), 79 I/O74 (io), 83 I/O75 (io), 84 I/O76 (io), 85 I/O77 (io), 86 I/O78 (io), 87 I/O79 (io), 88 I/O80 (io), 89 I/O81 (io), 91 I/O82 (io), 92 I/O83 (io), 93 I/O84 (io), 94 I/O85 (io), 95 I/O86 (io), 96 I/O87 (io), 97 I/O88 (io), 98 I/O89 (io), 103 I/O90 (io), 104 I/O91 (io), 105 I/O92 (io), 106 I/O93 (io), 107 I/O94 (io), 108 I/O95 (io), 109 I/O96 (io), 110 I/O97 (io), 112 I/O98 (io), 113 I/O99 (io), 114 I/O100 (io), 115 I/O101 (io), 117 I/O102 (io), 118 I/O103 (io), 119 I/O104 (io), 123 I/O105 (io), 124 I/O106 (io), 125 I/O107 (io), 126 I/O108 (io), 127 I/O109 (io), 128 I/O110 (io), 129 I/O111 (io), 131 I/O112 (io), 132 I/O113 (io), 133 I/O114 (io), 134 I/O115 (io), 135 I/O116 (io), 136 I/O117 (io), 137 I/O118 (io), 138 I/O119 (io), 143 I/O0 (io), 144 I/O1 (io), 145 I/O2 (io), 146 I/O3 (io), 147 I/O4 (io), 148 I/O5 (io), 149 I/O6 (io), 150 I/O7 (io), 152 I/O8 (io), 153 I/O9 (io), 154 I/O10 (io), 155 I/O11 (io), 156 I/O12 (io), 157 I/O13 (io), 158 I/O14 (io), 159 I/O15 (io)
part B pins: 1 GND (power), 2 NC, 6 TCK (in), 10 GND (power), 19 CLK0/IN0 (in), 20 VCCO (power), 21 GND (power), 22 CLK1/IN1 (in), 31 GND (power), 40 VCCO (power), 41 GND (power), 42 NC, 46 TMS (in), 50 GND (power), 59 IN2 (in), 60 VCCO (power), 61 GND (power), 62 VCC (power), 71 GND (power), 76 TDO (out), 80 VCCO (power), 81 GND (power), 82 NC, 90 GND (power), 99 CLK2/IN3 (in), 100 VCCO (power), 101 GND (power), 102 CLK3/IN4 (in), 111 GND (power), 116 TDI (in), 120 VCCO (power), 121 GND (power), 122 NC, 130 GND (power), 139 JTAGEN (in), 140 VCC (power), 141 GND (power), 142 VCCO (power), 151 GND (power), 160 VCCO (power)
part A text: Block L; Block K; Block J; Block A; Block I; Block B; Block H; Block C; Block G; Block D; Block E; Block F

## CY37192P160-125AC
designator U?
Ultra37000 5V, ISR High-Performance CPLD; Published: 11-Dec-2002; LatestRevisionDate: 13-Apr-2006; LatestRevisionNote: IPC-7351 Footprint Added.; DatasheetVersion: 18-Apr-2001; PackageVersion: Mar-2001; PackageReference: A160; Publisher: Altium Limited; PackageDescription: 160-Pin Thin Quad Flat Pack 0.5 mm Pitch; ComponentLink1Description: Manufacturer Link; ComponentLink1URL: http://www.cypress.com/; ComponentLink2Description: Datasheet; ComponentLink2URL: http://www.cypress.com/portal/server.pt/gateway/PTARGS_0_2_1524_209_259_43/http%3B/sjapp20.mis.cypress.com%3B7001/publishedcontent/publish/design_resources/datasheets/contents/cy37032p_5.pdf
footprint A160_N (Thin QFP, 160-Leads, Body 24x24mm, Pitch 0.5mm, IPC Medium Density)
footprint A160_L (Thin QFP, 160-Leads, Body 24x24mm, Pitch 0.5mm, IPC High Density)
footprint A160_M (Thin QFP, 160-Leads, Body 24x24mm, Pitch 0.5mm, IPC Low Density)
3D model CY37192P160-A160 (160-Pin Thin Quad Flat Pack 0.5 mm Pitch)
part A pins: 3 I/O16 (io), 4 I/O17 (io), 5 I/O18 (io), 7 I/O19 (io), 8 I/O20 (io), 9 I/O21 (io), 11 I/O22 (io), 12 I/O23 (io), 13 I/O24 (io), 14 I/O25 (io), 15 I/O26 (io), 16 I/O27 (io), 17 I/O28 (io), 18 I/O29 (io), 23 I/O30 (io), 24 I/O31 (io), 25 I/O32 (io), 26 I/O33 (io), 27 I/O34 (io), 28 I/O35 (io), 29 I/O36 (io), 30 I/O37 (io), 32 I/O38 (io), 33 I/O39 (io), 34 I/O40 (io), 35 I/O41 (io), 36 I/O42 (io), 37 I/O43 (io), 38 I/O44 (io), 39 I/O45 (io), 43 I/O46 (io), 44 I/O47 (io), 45 I/O48 (io), 47 I/O49 (io), 48 I/O50 (io), 49 I/O51 (io), 51 I/O52 (io), 52 I/O53 (io), 53 I/O54 (io), 54 I/O55 (io), 55 I/O56 (io), 56 I/O57 (io), 57 I/O58 (io), 58 I/O59 (io), 63 I/O60 (io), 64 I/O61 (io), 65 I/O62 (io), 66 I/O63 (io), 67 I/O64 (io), 68 I/O65 (io), 69 I/O66 (io), 70 I/O67 (io), 72 I/O68 (io), 73 I/O69 (io), 74 I/O70 (io), 75 I/O71 (io), 77 I/O72 (io), 78 I/O73 (io), 79 I/O74 (io), 83 I/O75 (io), 84 I/O76 (io), 85 I/O77 (io), 86 I/O78 (io), 87 I/O79 (io), 88 I/O80 (io), 89 I/O81 (io), 91 I/O82 (io), 92 I/O83 (io), 93 I/O84 (io), 94 I/O85 (io), 95 I/O86 (io), 96 I/O87 (io), 97 I/O88 (io), 98 I/O89 (io), 103 I/O90 (io), 104 I/O91 (io), 105 I/O92 (io), 106 I/O93 (io), 107 I/O94 (io), 108 I/O95 (io), 109 I/O96 (io), 110 I/O97 (io), 112 I/O98 (io), 113 I/O99 (io), 114 I/O100 (io), 115 I/O101 (io), 117 I/O102 (io), 118 I/O103 (io), 119 I/O104 (io), 123 I/O105 (io), 124 I/O106 (io), 125 I/O107 (io), 126 I/O108 (io), 127 I/O109 (io), 128 I/O110 (io), 129 I/O111 (io), 131 I/O112 (io), 132 I/O113 (io), 133 I/O114 (io), 134 I/O115 (io), 135 I/O116 (io), 136 I/O117 (io), 137 I/O118 (io), 138 I/O119 (io), 143 I/O0 (io), 144 I/O1 (io), 145 I/O2 (io), 146 I/O3 (io), 147 I/O4 (io), 148 I/O5 (io), 149 I/O6 (io), 150 I/O7 (io), 152 I/O8 (io), 153 I/O9 (io), 154 I/O10 (io), 155 I/O11 (io), 156 I/O12 (io), 157 I/O13 (io), 158 I/O14 (io), 159 I/O15 (io)
part B pins: 1 GND (power), 2 NC, 6 TCK (in), 10 GND (power), 19 CLK0/IN0 (in), 20 VCCO (power), 21 GND (power), 22 CLK1/IN1 (in), 31 GND (power), 40 VCCO (power), 41 GND (power), 42 NC, 46 TMS (in), 50 GND (power), 59 IN2 (in), 60 VCCO (power), 61 GND (power), 62 VCC (power), 71 GND (power), 76 TDO (out), 80 VCCO (power), 81 GND (power), 82 NC, 90 GND (power), 99 CLK2/IN3 (in), 100 VCCO (power), 101 GND (power), 102 CLK3/IN4 (in), 111 GND (power), 116 TDI (in), 120 VCCO (power), 121 GND (power), 122 NC, 130 GND (power), 139 JTAGEN (in), 140 VCC (power), 141 GND (power), 142 VCCO (power), 151 GND (power), 160 VCCO (power)
part A text: Block L; Block K; Block J; Block A; Block I; Block B; Block H; Block C; Block G; Block D; Block E; Block F

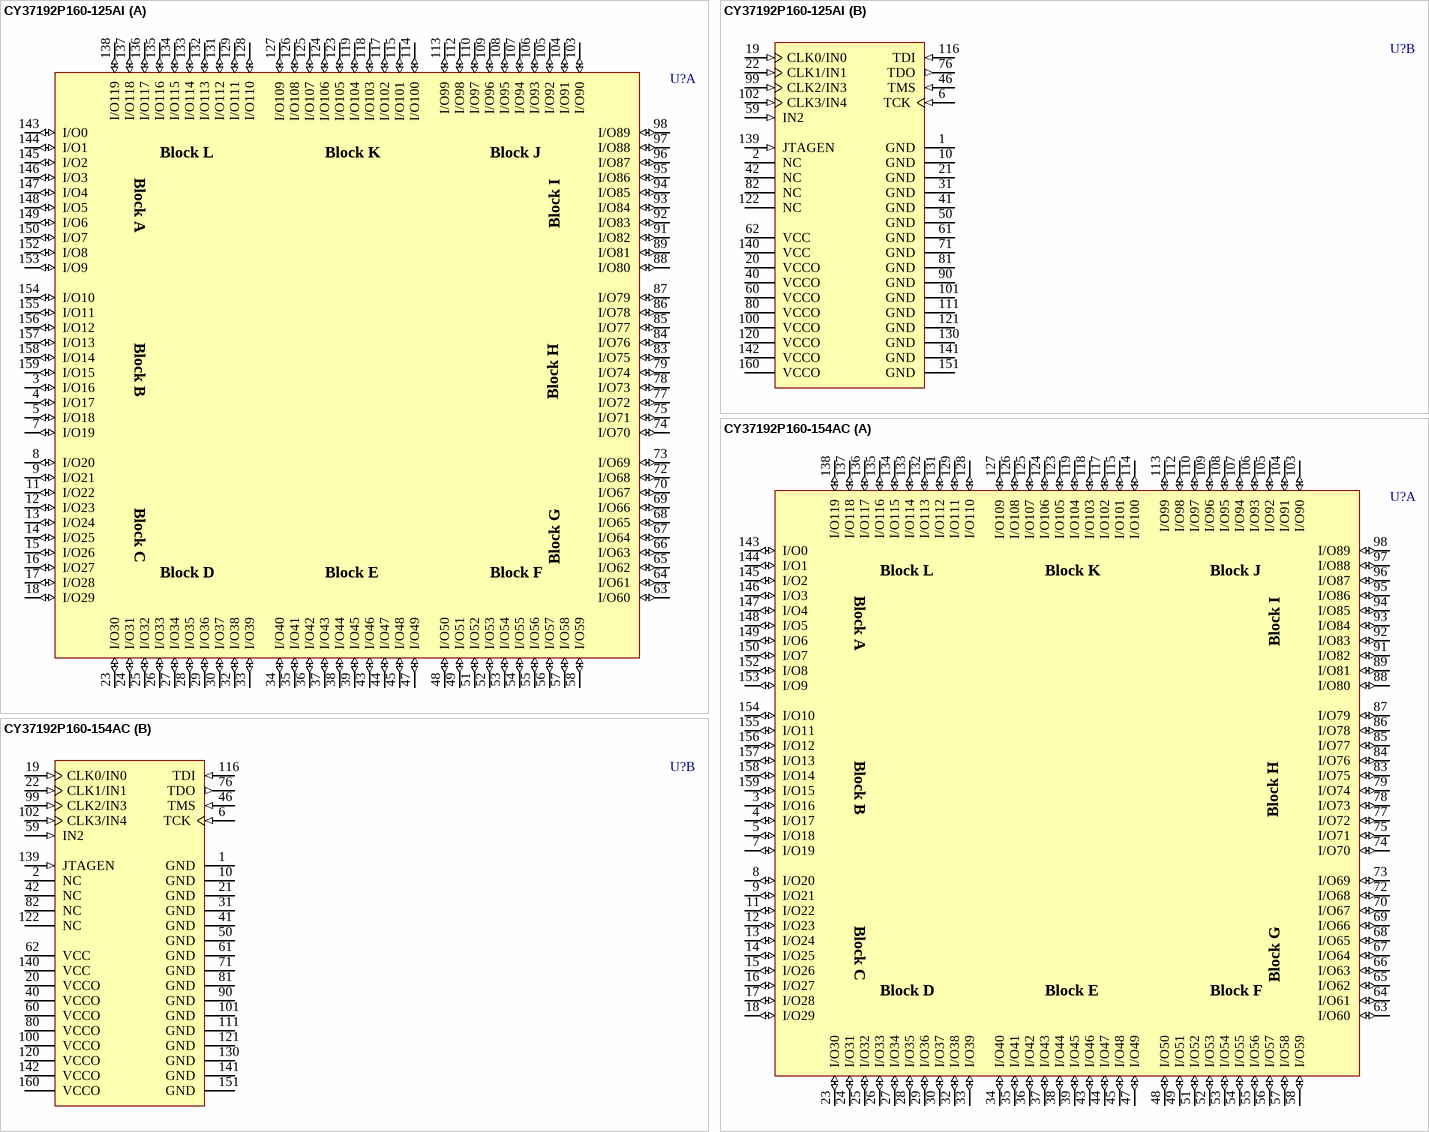
[diagram p24: symbols CY37192P160-125AI to CY37192P160-154AC]

## CY37192P160-125AI
designator U?
Ultra37000 5V, ISR High-Performance CPLD; Published: 11-Dec-2002; LatestRevisionDate: 13-Apr-2006; LatestRevisionNote: IPC-7351 Footprint Added.; DatasheetVersion: 18-Apr-2001; PackageVersion: Mar-2001; PackageReference: A160; Publisher: Altium Limited; PackageDescription: 160-Pin Thin Quad Flat Pack 0.5 mm Pitch; ComponentLink1Description: Manufacturer Link; ComponentLink1URL: http://www.cypress.com/; ComponentLink2Description: Datasheet; ComponentLink2URL: http://www.cypress.com/portal/server.pt/gateway/PTARGS_0_2_1524_209_259_43/http%3B/sjapp20.mis.cypress.com%3B7001/publishedcontent/publish/design_resources/datasheets/contents/cy37032p_5.pdf
footprint A160_N (Thin QFP, 160-Leads, Body 24x24mm, Pitch 0.5mm, IPC Medium Density)
footprint A160_L (Thin QFP, 160-Leads, Body 24x24mm, Pitch 0.5mm, IPC High Density)
footprint A160_M (Thin QFP, 160-Leads, Body 24x24mm, Pitch 0.5mm, IPC Low Density)
3D model CY37192P160-A160 (160-Pin Thin Quad Flat Pack 0.5 mm Pitch)
part A pins: 3 I/O16 (io), 4 I/O17 (io), 5 I/O18 (io), 7 I/O19 (io), 8 I/O20 (io), 9 I/O21 (io), 11 I/O22 (io), 12 I/O23 (io), 13 I/O24 (io), 14 I/O25 (io), 15 I/O26 (io), 16 I/O27 (io), 17 I/O28 (io), 18 I/O29 (io), 23 I/O30 (io), 24 I/O31 (io), 25 I/O32 (io), 26 I/O33 (io), 27 I/O34 (io), 28 I/O35 (io), 29 I/O36 (io), 30 I/O37 (io), 32 I/O38 (io), 33 I/O39 (io), 34 I/O40 (io), 35 I/O41 (io), 36 I/O42 (io), 37 I/O43 (io), 38 I/O44 (io), 39 I/O45 (io), 43 I/O46 (io), 44 I/O47 (io), 45 I/O48 (io), 47 I/O49 (io), 48 I/O50 (io), 49 I/O51 (io), 51 I/O52 (io), 52 I/O53 (io), 53 I/O54 (io), 54 I/O55 (io), 55 I/O56 (io), 56 I/O57 (io), 57 I/O58 (io), 58 I/O59 (io), 63 I/O60 (io), 64 I/O61 (io), 65 I/O62 (io), 66 I/O63 (io), 67 I/O64 (io), 68 I/O65 (io), 69 I/O66 (io), 70 I/O67 (io), 72 I/O68 (io), 73 I/O69 (io), 74 I/O70 (io), 75 I/O71 (io), 77 I/O72 (io), 78 I/O73 (io), 79 I/O74 (io), 83 I/O75 (io), 84 I/O76 (io), 85 I/O77 (io), 86 I/O78 (io), 87 I/O79 (io), 88 I/O80 (io), 89 I/O81 (io), 91 I/O82 (io), 92 I/O83 (io), 93 I/O84 (io), 94 I/O85 (io), 95 I/O86 (io), 96 I/O87 (io), 97 I/O88 (io), 98 I/O89 (io), 103 I/O90 (io), 104 I/O91 (io), 105 I/O92 (io), 106 I/O93 (io), 107 I/O94 (io), 108 I/O95 (io), 109 I/O96 (io), 110 I/O97 (io), 112 I/O98 (io), 113 I/O99 (io), 114 I/O100 (io), 115 I/O101 (io), 117 I/O102 (io), 118 I/O103 (io), 119 I/O104 (io), 123 I/O105 (io), 124 I/O106 (io), 125 I/O107 (io), 126 I/O108 (io), 127 I/O109 (io), 128 I/O110 (io), 129 I/O111 (io), 131 I/O112 (io), 132 I/O113 (io), 133 I/O114 (io), 134 I/O115 (io), 135 I/O116 (io), 136 I/O117 (io), 137 I/O118 (io), 138 I/O119 (io), 143 I/O0 (io), 144 I/O1 (io), 145 I/O2 (io), 146 I/O3 (io), 147 I/O4 (io), 148 I/O5 (io), 149 I/O6 (io), 150 I/O7 (io), 152 I/O8 (io), 153 I/O9 (io), 154 I/O10 (io), 155 I/O11 (io), 156 I/O12 (io), 157 I/O13 (io), 158 I/O14 (io), 159 I/O15 (io)
part B pins: 1 GND (power), 2 NC, 6 TCK (in), 10 GND (power), 19 CLK0/IN0 (in), 20 VCCO (power), 21 GND (power), 22 CLK1/IN1 (in), 31 GND (power), 40 VCCO (power), 41 GND (power), 42 NC, 46 TMS (in), 50 GND (power), 59 IN2 (in), 60 VCCO (power), 61 GND (power), 62 VCC (power), 71 GND (power), 76 TDO (out), 80 VCCO (power), 81 GND (power), 82 NC, 90 GND (power), 99 CLK2/IN3 (in), 100 VCCO (power), 101 GND (power), 102 CLK3/IN4 (in), 111 GND (power), 116 TDI (in), 120 VCCO (power), 121 GND (power), 122 NC, 130 GND (power), 139 JTAGEN (in), 140 VCC (power), 141 GND (power), 142 VCCO (power), 151 GND (power), 160 VCCO (power)
part A text: Block L; Block K; Block J; Block A; Block I; Block B; Block H; Block C; Block G; Block D; Block E; Block F

## CY37192P160-154AC
designator U?
Ultra37000 5V, ISR High-Performance CPLD; Published: 11-Dec-2002; LatestRevisionDate: 13-Apr-2006; LatestRevisionNote: IPC-7351 Footprint Added.; DatasheetVersion: 18-Apr-2001; PackageVersion: Mar-2001; PackageReference: A160; Publisher: Altium Limited; PackageDescription: 160-Pin Thin Quad Flat Pack 0.5 mm Pitch; ComponentLink1Description: Manufacturer Link; ComponentLink1URL: http://www.cypress.com/; ComponentLink2Description: Datasheet; ComponentLink2URL: http://www.cypress.com/portal/server.pt/gateway/PTARGS_0_2_1524_209_259_43/http%3B/sjapp20.mis.cypress.com%3B7001/publishedcontent/publish/design_resources/datasheets/contents/cy37032p_5.pdf
footprint A160_N (Thin QFP, 160-Leads, Body 24x24mm, Pitch 0.5mm, IPC Medium Density)
footprint A160_L (Thin QFP, 160-Leads, Body 24x24mm, Pitch 0.5mm, IPC High Density)
footprint A160_M (Thin QFP, 160-Leads, Body 24x24mm, Pitch 0.5mm, IPC Low Density)
3D model CY37192P160-A160 (160-Pin Thin Quad Flat Pack 0.5 mm Pitch)
part A pins: 3 I/O16 (io), 4 I/O17 (io), 5 I/O18 (io), 7 I/O19 (io), 8 I/O20 (io), 9 I/O21 (io), 11 I/O22 (io), 12 I/O23 (io), 13 I/O24 (io), 14 I/O25 (io), 15 I/O26 (io), 16 I/O27 (io), 17 I/O28 (io), 18 I/O29 (io), 23 I/O30 (io), 24 I/O31 (io), 25 I/O32 (io), 26 I/O33 (io), 27 I/O34 (io), 28 I/O35 (io), 29 I/O36 (io), 30 I/O37 (io), 32 I/O38 (io), 33 I/O39 (io), 34 I/O40 (io), 35 I/O41 (io), 36 I/O42 (io), 37 I/O43 (io), 38 I/O44 (io), 39 I/O45 (io), 43 I/O46 (io), 44 I/O47 (io), 45 I/O48 (io), 47 I/O49 (io), 48 I/O50 (io), 49 I/O51 (io), 51 I/O52 (io), 52 I/O53 (io), 53 I/O54 (io), 54 I/O55 (io), 55 I/O56 (io), 56 I/O57 (io), 57 I/O58 (io), 58 I/O59 (io), 63 I/O60 (io), 64 I/O61 (io), 65 I/O62 (io), 66 I/O63 (io), 67 I/O64 (io), 68 I/O65 (io), 69 I/O66 (io), 70 I/O67 (io), 72 I/O68 (io), 73 I/O69 (io), 74 I/O70 (io), 75 I/O71 (io), 77 I/O72 (io), 78 I/O73 (io), 79 I/O74 (io), 83 I/O75 (io), 84 I/O76 (io), 85 I/O77 (io), 86 I/O78 (io), 87 I/O79 (io), 88 I/O80 (io), 89 I/O81 (io), 91 I/O82 (io), 92 I/O83 (io), 93 I/O84 (io), 94 I/O85 (io), 95 I/O86 (io), 96 I/O87 (io), 97 I/O88 (io), 98 I/O89 (io), 103 I/O90 (io), 104 I/O91 (io), 105 I/O92 (io), 106 I/O93 (io), 107 I/O94 (io), 108 I/O95 (io), 109 I/O96 (io), 110 I/O97 (io), 112 I/O98 (io), 113 I/O99 (io), 114 I/O100 (io), 115 I/O101 (io), 117 I/O102 (io), 118 I/O103 (io), 119 I/O104 (io), 123 I/O105 (io), 124 I/O106 (io), 125 I/O107 (io), 126 I/O108 (io), 127 I/O109 (io), 128 I/O110 (io), 129 I/O111 (io), 131 I/O112 (io), 132 I/O113 (io), 133 I/O114 (io), 134 I/O115 (io), 135 I/O116 (io), 136 I/O117 (io), 137 I/O118 (io), 138 I/O119 (io), 143 I/O0 (io), 144 I/O1 (io), 145 I/O2 (io), 146 I/O3 (io), 147 I/O4 (io), 148 I/O5 (io), 149 I/O6 (io), 150 I/O7 (io), 152 I/O8 (io), 153 I/O9 (io), 154 I/O10 (io), 155 I/O11 (io), 156 I/O12 (io), 157 I/O13 (io), 158 I/O14 (io), 159 I/O15 (io)
part B pins: 1 GND (power), 2 NC, 6 TCK (in), 10 GND (power), 19 CLK0/IN0 (in), 20 VCCO (power), 21 GND (power), 22 CLK1/IN1 (in), 31 GND (power), 40 VCCO (power), 41 GND (power), 42 NC, 46 TMS (in), 50 GND (power), 59 IN2 (in), 60 VCCO (power), 61 GND (power), 62 VCC (power), 71 GND (power), 76 TDO (out), 80 VCCO (power), 81 GND (power), 82 NC, 90 GND (power), 99 CLK2/IN3 (in), 100 VCCO (power), 101 GND (power), 102 CLK3/IN4 (in), 111 GND (power), 116 TDI (in), 120 VCCO (power), 121 GND (power), 122 NC, 130 GND (power), 139 JTAGEN (in), 140 VCC (power), 141 GND (power), 142 VCCO (power), 151 GND (power), 160 VCCO (power)
part A text: Block L; Block K; Block J; Block A; Block I; Block B; Block H; Block C; Block G; Block D; Block E; Block F

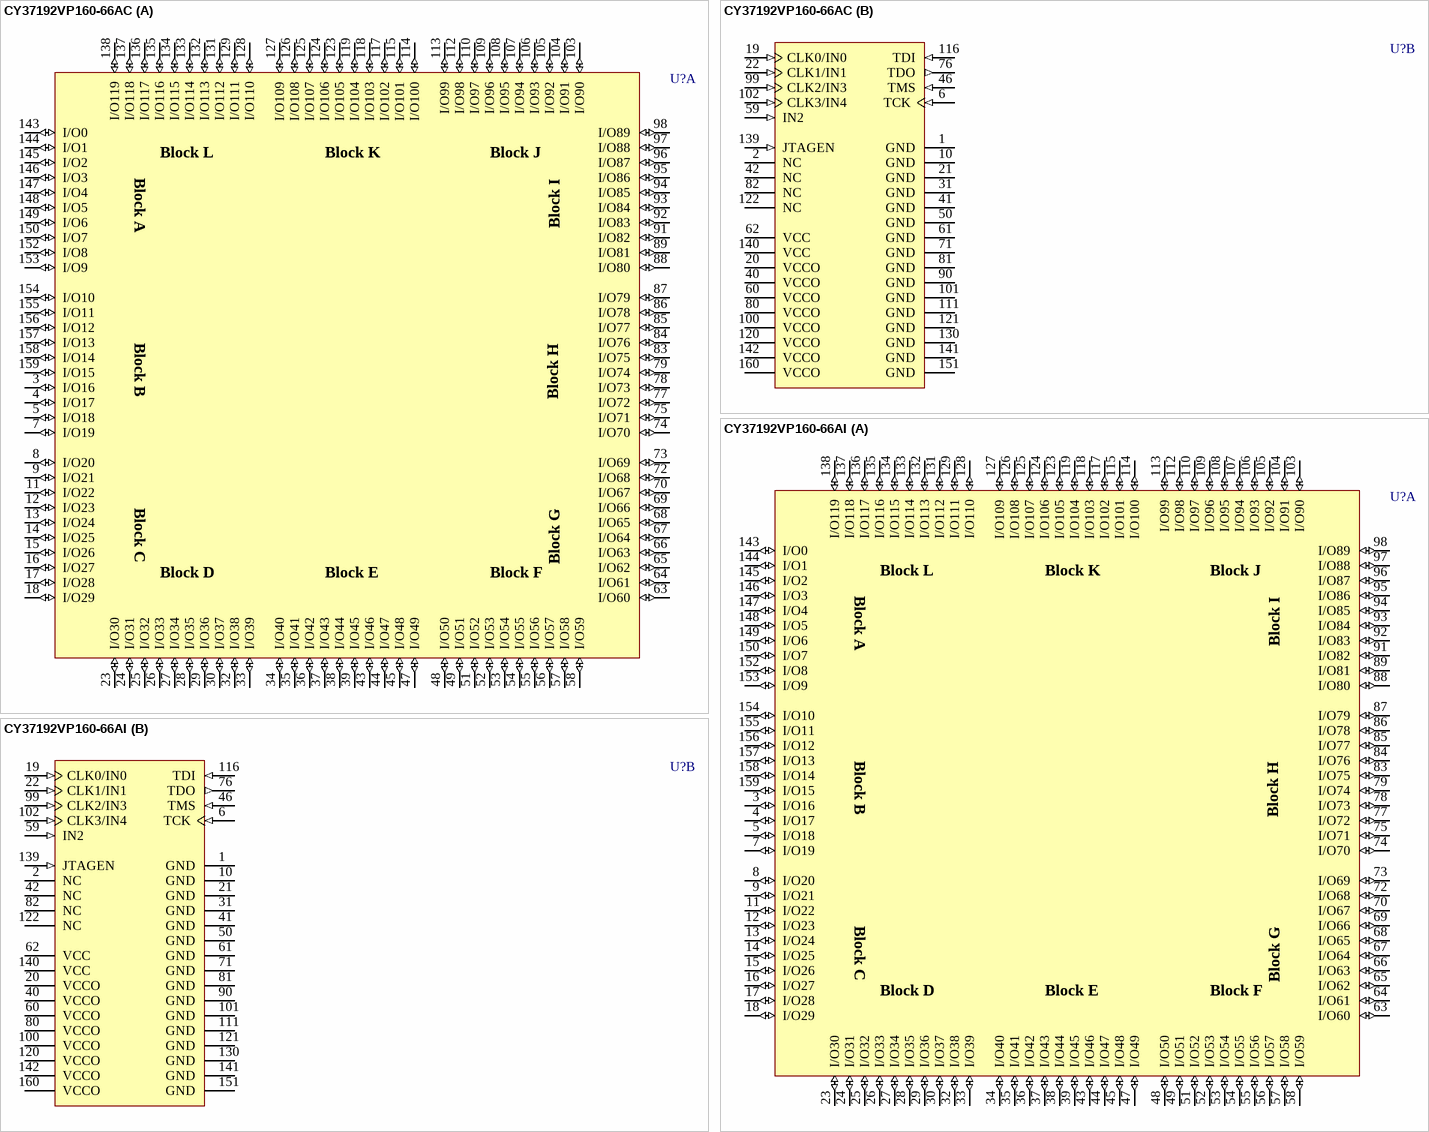
[diagram p25: symbols CY37192VP160-66AC to CY37192VP160-66AI]

## CY37192VP160-66AC
designator U?
Ultra37000 3.3V, ISR High-Performance CPLD; Published: 11-Dec-2002; LatestRevisionDate: 13-Apr-2006; LatestRevisionNote: IPC-7351 Footprint Added.; DatasheetVersion: 18-Apr-2001; PackageVersion: Mar-2001; PackageReference: A160; Publisher: Altium Limited; PackageDescription: 160-Pin Thin Quad Flat Pack 0.5 mm Pitch; ComponentLink1Description: Manufacturer Link; ComponentLink1URL: http://www.cypress.com/; ComponentLink2Description: Datasheet; ComponentLink2URL: http://www.cypress.com/portal/server.pt/gateway/PTARGS_0_2_1524_209_259_43/http%3B/sjapp20.mis.cypress.com%3B7001/publishedcontent/publish/design_resources/datasheets/contents/cy37032p_5.pdf
footprint A160_N (Thin QFP, 160-Leads, Body 24x24mm, Pitch 0.5mm, IPC Medium Density)
footprint A160_L (Thin QFP, 160-Leads, Body 24x24mm, Pitch 0.5mm, IPC High Density)
footprint A160_M (Thin QFP, 160-Leads, Body 24x24mm, Pitch 0.5mm, IPC Low Density)
3D model CY37192VP160-A160 (160-Pin Thin Quad Flat Pack 0.5 mm Pitch)
part A pins: 3 I/O16 (io), 4 I/O17 (io), 5 I/O18 (io), 7 I/O19 (io), 8 I/O20 (io), 9 I/O21 (io), 11 I/O22 (io), 12 I/O23 (io), 13 I/O24 (io), 14 I/O25 (io), 15 I/O26 (io), 16 I/O27 (io), 17 I/O28 (io), 18 I/O29 (io), 23 I/O30 (io), 24 I/O31 (io), 25 I/O32 (io), 26 I/O33 (io), 27 I/O34 (io), 28 I/O35 (io), 29 I/O36 (io), 30 I/O37 (io), 32 I/O38 (io), 33 I/O39 (io), 34 I/O40 (io), 35 I/O41 (io), 36 I/O42 (io), 37 I/O43 (io), 38 I/O44 (io), 39 I/O45 (io), 43 I/O46 (io), 44 I/O47 (io), 45 I/O48 (io), 47 I/O49 (io), 48 I/O50 (io), 49 I/O51 (io), 51 I/O52 (io), 52 I/O53 (io), 53 I/O54 (io), 54 I/O55 (io), 55 I/O56 (io), 56 I/O57 (io), 57 I/O58 (io), 58 I/O59 (io), 63 I/O60 (io), 64 I/O61 (io), 65 I/O62 (io), 66 I/O63 (io), 67 I/O64 (io), 68 I/O65 (io), 69 I/O66 (io), 70 I/O67 (io), 72 I/O68 (io), 73 I/O69 (io), 74 I/O70 (io), 75 I/O71 (io), 77 I/O72 (io), 78 I/O73 (io), 79 I/O74 (io), 83 I/O75 (io), 84 I/O76 (io), 85 I/O77 (io), 86 I/O78 (io), 87 I/O79 (io), 88 I/O80 (io), 89 I/O81 (io), 91 I/O82 (io), 92 I/O83 (io), 93 I/O84 (io), 94 I/O85 (io), 95 I/O86 (io), 96 I/O87 (io), 97 I/O88 (io), 98 I/O89 (io), 103 I/O90 (io), 104 I/O91 (io), 105 I/O92 (io), 106 I/O93 (io), 107 I/O94 (io), 108 I/O95 (io), 109 I/O96 (io), 110 I/O97 (io), 112 I/O98 (io), 113 I/O99 (io), 114 I/O100 (io), 115 I/O101 (io), 117 I/O102 (io), 118 I/O103 (io), 119 I/O104 (io), 123 I/O105 (io), 124 I/O106 (io), 125 I/O107 (io), 126 I/O108 (io), 127 I/O109 (io), 128 I/O110 (io), 129 I/O111 (io), 131 I/O112 (io), 132 I/O113 (io), 133 I/O114 (io), 134 I/O115 (io), 135 I/O116 (io), 136 I/O117 (io), 137 I/O118 (io), 138 I/O119 (io), 143 I/O0 (io), 144 I/O1 (io), 145 I/O2 (io), 146 I/O3 (io), 147 I/O4 (io), 148 I/O5 (io), 149 I/O6 (io), 150 I/O7 (io), 152 I/O8 (io), 153 I/O9 (io), 154 I/O10 (io), 155 I/O11 (io), 156 I/O12 (io), 157 I/O13 (io), 158 I/O14 (io), 159 I/O15 (io)
part B pins: 1 GND (power), 2 NC, 6 TCK (in), 10 GND (power), 19 CLK0/IN0 (in), 20 VCCO (power), 21 GND (power), 22 CLK1/IN1 (in), 31 GND (power), 40 VCCO (power), 41 GND (power), 42 NC, 46 TMS (in), 50 GND (power), 59 IN2 (in), 60 VCCO (power), 61 GND (power), 62 VCC (power), 71 GND (power), 76 TDO (out), 80 VCCO (power), 81 GND (power), 82 NC, 90 GND (power), 99 CLK2/IN3 (in), 100 VCCO (power), 101 GND (power), 102 CLK3/IN4 (in), 111 GND (power), 116 TDI (in), 120 VCCO (power), 121 GND (power), 122 NC, 130 GND (power), 139 JTAGEN (in), 140 VCC (power), 141 GND (power), 142 VCCO (power), 151 GND (power), 160 VCCO (power)
part A text: Block L; Block K; Block J; Block A; Block I; Block B; Block H; Block C; Block G; Block D; Block E; Block F

## CY37192VP160-66AI
designator U?
Ultra37000 3.3V, ISR High-Performance CPLD; Published: 11-Dec-2002; LatestRevisionDate: 13-Apr-2006; LatestRevisionNote: IPC-7351 Footprint Added.; DatasheetVersion: 18-Apr-2001; PackageVersion: Mar-2001; PackageReference: A160; Publisher: Altium Limited; PackageDescription: 160-Pin Thin Quad Flat Pack 0.5 mm Pitch; ComponentLink1Description: Manufacturer Link; ComponentLink1URL: http://www.cypress.com/; ComponentLink2Description: Datasheet; ComponentLink2URL: http://www.cypress.com/portal/server.pt/gateway/PTARGS_0_2_1524_209_259_43/http%3B/sjapp20.mis.cypress.com%3B7001/publishedcontent/publish/design_resources/datasheets/contents/cy37032p_5.pdf
footprint A160_N (Thin QFP, 160-Leads, Body 24x24mm, Pitch 0.5mm, IPC Medium Density)
footprint A160_L (Thin QFP, 160-Leads, Body 24x24mm, Pitch 0.5mm, IPC High Density)
footprint A160_M (Thin QFP, 160-Leads, Body 24x24mm, Pitch 0.5mm, IPC Low Density)
3D model CY37192VP160-A160 (160-Pin Thin Quad Flat Pack 0.5 mm Pitch)
part A pins: 3 I/O16 (io), 4 I/O17 (io), 5 I/O18 (io), 7 I/O19 (io), 8 I/O20 (io), 9 I/O21 (io), 11 I/O22 (io), 12 I/O23 (io), 13 I/O24 (io), 14 I/O25 (io), 15 I/O26 (io), 16 I/O27 (io), 17 I/O28 (io), 18 I/O29 (io), 23 I/O30 (io), 24 I/O31 (io), 25 I/O32 (io), 26 I/O33 (io), 27 I/O34 (io), 28 I/O35 (io), 29 I/O36 (io), 30 I/O37 (io), 32 I/O38 (io), 33 I/O39 (io), 34 I/O40 (io), 35 I/O41 (io), 36 I/O42 (io), 37 I/O43 (io), 38 I/O44 (io), 39 I/O45 (io), 43 I/O46 (io), 44 I/O47 (io), 45 I/O48 (io), 47 I/O49 (io), 48 I/O50 (io), 49 I/O51 (io), 51 I/O52 (io), 52 I/O53 (io), 53 I/O54 (io), 54 I/O55 (io), 55 I/O56 (io), 56 I/O57 (io), 57 I/O58 (io), 58 I/O59 (io), 63 I/O60 (io), 64 I/O61 (io), 65 I/O62 (io), 66 I/O63 (io), 67 I/O64 (io), 68 I/O65 (io), 69 I/O66 (io), 70 I/O67 (io), 72 I/O68 (io), 73 I/O69 (io), 74 I/O70 (io), 75 I/O71 (io), 77 I/O72 (io), 78 I/O73 (io), 79 I/O74 (io), 83 I/O75 (io), 84 I/O76 (io), 85 I/O77 (io), 86 I/O78 (io), 87 I/O79 (io), 88 I/O80 (io), 89 I/O81 (io), 91 I/O82 (io), 92 I/O83 (io), 93 I/O84 (io), 94 I/O85 (io), 95 I/O86 (io), 96 I/O87 (io), 97 I/O88 (io), 98 I/O89 (io), 103 I/O90 (io), 104 I/O91 (io), 105 I/O92 (io), 106 I/O93 (io), 107 I/O94 (io), 108 I/O95 (io), 109 I/O96 (io), 110 I/O97 (io), 112 I/O98 (io), 113 I/O99 (io), 114 I/O100 (io), 115 I/O101 (io), 117 I/O102 (io), 118 I/O103 (io), 119 I/O104 (io), 123 I/O105 (io), 124 I/O106 (io), 125 I/O107 (io), 126 I/O108 (io), 127 I/O109 (io), 128 I/O110 (io), 129 I/O111 (io), 131 I/O112 (io), 132 I/O113 (io), 133 I/O114 (io), 134 I/O115 (io), 135 I/O116 (io), 136 I/O117 (io), 137 I/O118 (io), 138 I/O119 (io), 143 I/O0 (io), 144 I/O1 (io), 145 I/O2 (io), 146 I/O3 (io), 147 I/O4 (io), 148 I/O5 (io), 149 I/O6 (io), 150 I/O7 (io), 152 I/O8 (io), 153 I/O9 (io), 154 I/O10 (io), 155 I/O11 (io), 156 I/O12 (io), 157 I/O13 (io), 158 I/O14 (io), 159 I/O15 (io)
part B pins: 1 GND (power), 2 NC, 6 TCK (in), 10 GND (power), 19 CLK0/IN0 (in), 20 VCCO (power), 21 GND (power), 22 CLK1/IN1 (in), 31 GND (power), 40 VCCO (power), 41 GND (power), 42 NC, 46 TMS (in), 50 GND (power), 59 IN2 (in), 60 VCCO (power), 61 GND (power), 62 VCC (power), 71 GND (power), 76 TDO (out), 80 VCCO (power), 81 GND (power), 82 NC, 90 GND (power), 99 CLK2/IN3 (in), 100 VCCO (power), 101 GND (power), 102 CLK3/IN4 (in), 111 GND (power), 116 TDI (in), 120 VCCO (power), 121 GND (power), 122 NC, 130 GND (power), 139 JTAGEN (in), 140 VCC (power), 141 GND (power), 142 VCCO (power), 151 GND (power), 160 VCCO (power)
part A text: Block L; Block K; Block J; Block A; Block I; Block B; Block H; Block C; Block G; Block D; Block E; Block F

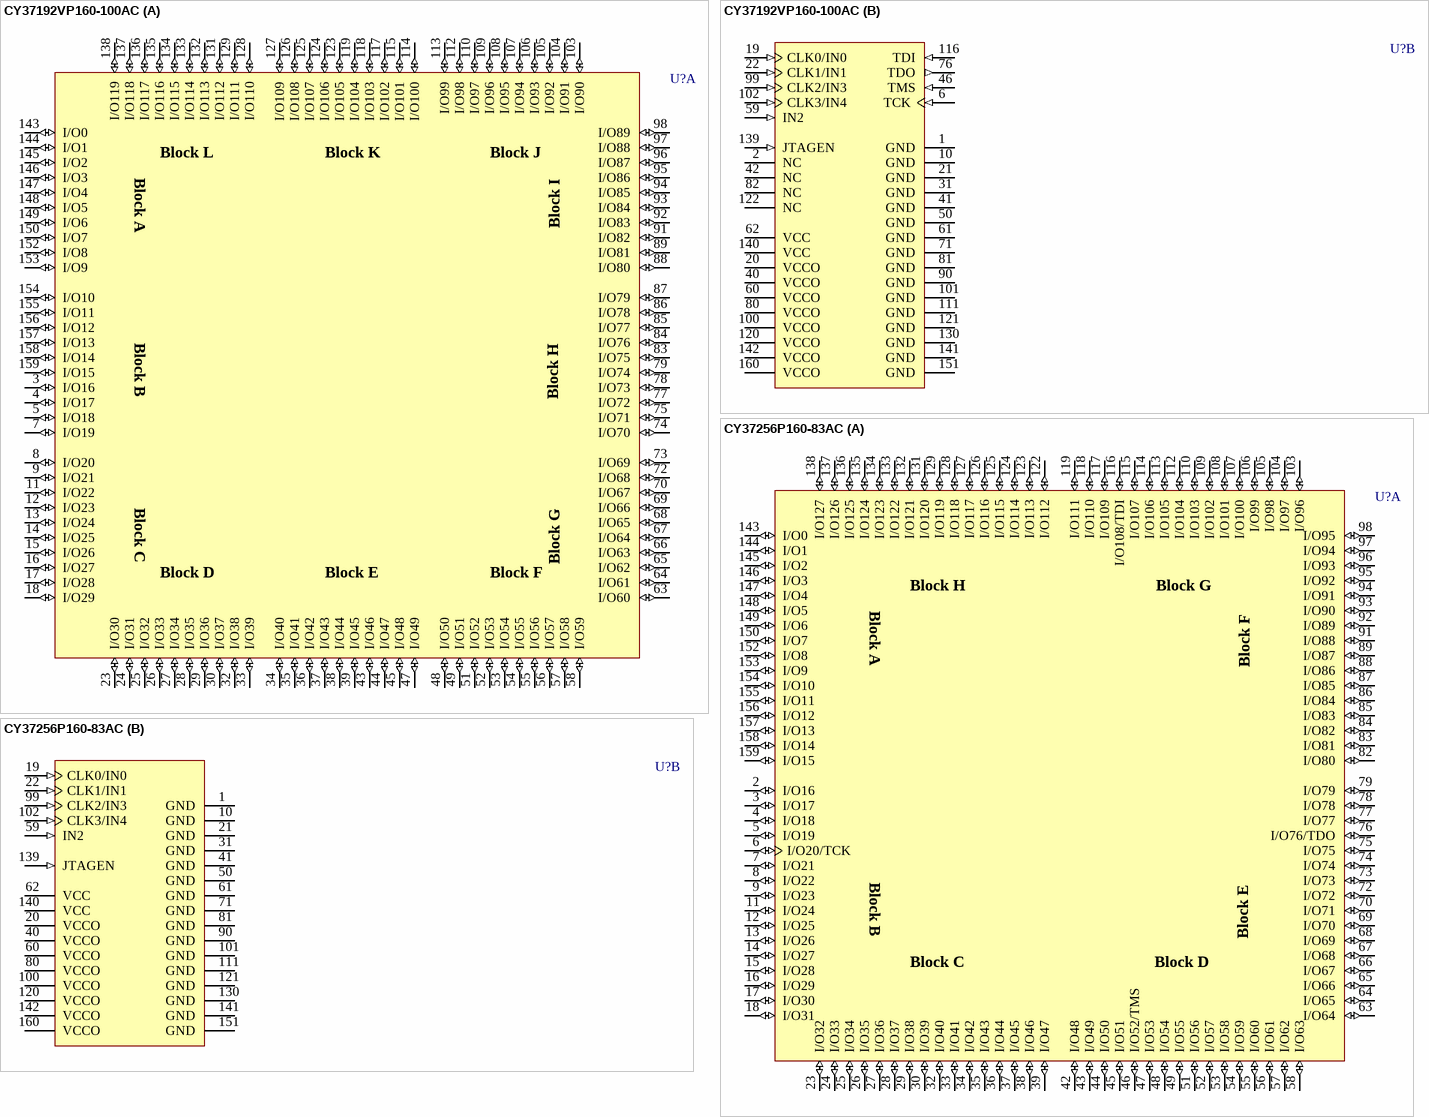
[diagram p26: symbols CY37192VP160-100AC to CY37256P160-83AC]

## CY37192VP160-100AC
designator U?
Ultra37000 3.3V, ISR High-Performance CPLD; Published: 11-Dec-2002; LatestRevisionDate: 13-Apr-2006; LatestRevisionNote: IPC-7351 Footprint Added.; DatasheetVersion: 18-Apr-2001; PackageVersion: Mar-2001; PackageReference: A160; Publisher: Altium Limited; PackageDescription: 160-Pin Thin Quad Flat Pack 0.5 mm Pitch; ComponentLink1Description: Manufacturer Link; ComponentLink1URL: http://www.cypress.com/; ComponentLink2Description: Datasheet; ComponentLink2URL: http://www.cypress.com/portal/server.pt/gateway/PTARGS_0_2_1524_209_259_43/http%3B/sjapp20.mis.cypress.com%3B7001/publishedcontent/publish/design_resources/datasheets/contents/cy37032p_5.pdf
footprint A160_N (Thin QFP, 160-Leads, Body 24x24mm, Pitch 0.5mm, IPC Medium Density)
footprint A160_L (Thin QFP, 160-Leads, Body 24x24mm, Pitch 0.5mm, IPC High Density)
footprint A160_M (Thin QFP, 160-Leads, Body 24x24mm, Pitch 0.5mm, IPC Low Density)
3D model CY37192VP160-A160 (160-Pin Thin Quad Flat Pack 0.5 mm Pitch)
part A pins: 3 I/O16 (io), 4 I/O17 (io), 5 I/O18 (io), 7 I/O19 (io), 8 I/O20 (io), 9 I/O21 (io), 11 I/O22 (io), 12 I/O23 (io), 13 I/O24 (io), 14 I/O25 (io), 15 I/O26 (io), 16 I/O27 (io), 17 I/O28 (io), 18 I/O29 (io), 23 I/O30 (io), 24 I/O31 (io), 25 I/O32 (io), 26 I/O33 (io), 27 I/O34 (io), 28 I/O35 (io), 29 I/O36 (io), 30 I/O37 (io), 32 I/O38 (io), 33 I/O39 (io), 34 I/O40 (io), 35 I/O41 (io), 36 I/O42 (io), 37 I/O43 (io), 38 I/O44 (io), 39 I/O45 (io), 43 I/O46 (io), 44 I/O47 (io), 45 I/O48 (io), 47 I/O49 (io), 48 I/O50 (io), 49 I/O51 (io), 51 I/O52 (io), 52 I/O53 (io), 53 I/O54 (io), 54 I/O55 (io), 55 I/O56 (io), 56 I/O57 (io), 57 I/O58 (io), 58 I/O59 (io), 63 I/O60 (io), 64 I/O61 (io), 65 I/O62 (io), 66 I/O63 (io), 67 I/O64 (io), 68 I/O65 (io), 69 I/O66 (io), 70 I/O67 (io), 72 I/O68 (io), 73 I/O69 (io), 74 I/O70 (io), 75 I/O71 (io), 77 I/O72 (io), 78 I/O73 (io), 79 I/O74 (io), 83 I/O75 (io), 84 I/O76 (io), 85 I/O77 (io), 86 I/O78 (io), 87 I/O79 (io), 88 I/O80 (io), 89 I/O81 (io), 91 I/O82 (io), 92 I/O83 (io), 93 I/O84 (io), 94 I/O85 (io), 95 I/O86 (io), 96 I/O87 (io), 97 I/O88 (io), 98 I/O89 (io), 103 I/O90 (io), 104 I/O91 (io), 105 I/O92 (io), 106 I/O93 (io), 107 I/O94 (io), 108 I/O95 (io), 109 I/O96 (io), 110 I/O97 (io), 112 I/O98 (io), 113 I/O99 (io), 114 I/O100 (io), 115 I/O101 (io), 117 I/O102 (io), 118 I/O103 (io), 119 I/O104 (io), 123 I/O105 (io), 124 I/O106 (io), 125 I/O107 (io), 126 I/O108 (io), 127 I/O109 (io), 128 I/O110 (io), 129 I/O111 (io), 131 I/O112 (io), 132 I/O113 (io), 133 I/O114 (io), 134 I/O115 (io), 135 I/O116 (io), 136 I/O117 (io), 137 I/O118 (io), 138 I/O119 (io), 143 I/O0 (io), 144 I/O1 (io), 145 I/O2 (io), 146 I/O3 (io), 147 I/O4 (io), 148 I/O5 (io), 149 I/O6 (io), 150 I/O7 (io), 152 I/O8 (io), 153 I/O9 (io), 154 I/O10 (io), 155 I/O11 (io), 156 I/O12 (io), 157 I/O13 (io), 158 I/O14 (io), 159 I/O15 (io)
part B pins: 1 GND (power), 2 NC, 6 TCK (in), 10 GND (power), 19 CLK0/IN0 (in), 20 VCCO (power), 21 GND (power), 22 CLK1/IN1 (in), 31 GND (power), 40 VCCO (power), 41 GND (power), 42 NC, 46 TMS (in), 50 GND (power), 59 IN2 (in), 60 VCCO (power), 61 GND (power), 62 VCC (power), 71 GND (power), 76 TDO (out), 80 VCCO (power), 81 GND (power), 82 NC, 90 GND (power), 99 CLK2/IN3 (in), 100 VCCO (power), 101 GND (power), 102 CLK3/IN4 (in), 111 GND (power), 116 TDI (in), 120 VCCO (power), 121 GND (power), 122 NC, 130 GND (power), 139 JTAGEN (in), 140 VCC (power), 141 GND (power), 142 VCCO (power), 151 GND (power), 160 VCCO (power)
part A text: Block L; Block K; Block J; Block A; Block I; Block B; Block H; Block C; Block G; Block D; Block E; Block F